# Altium integrated library Lattice FPGA FPSC.IntLib: 28 symbols (part 5 of 9)
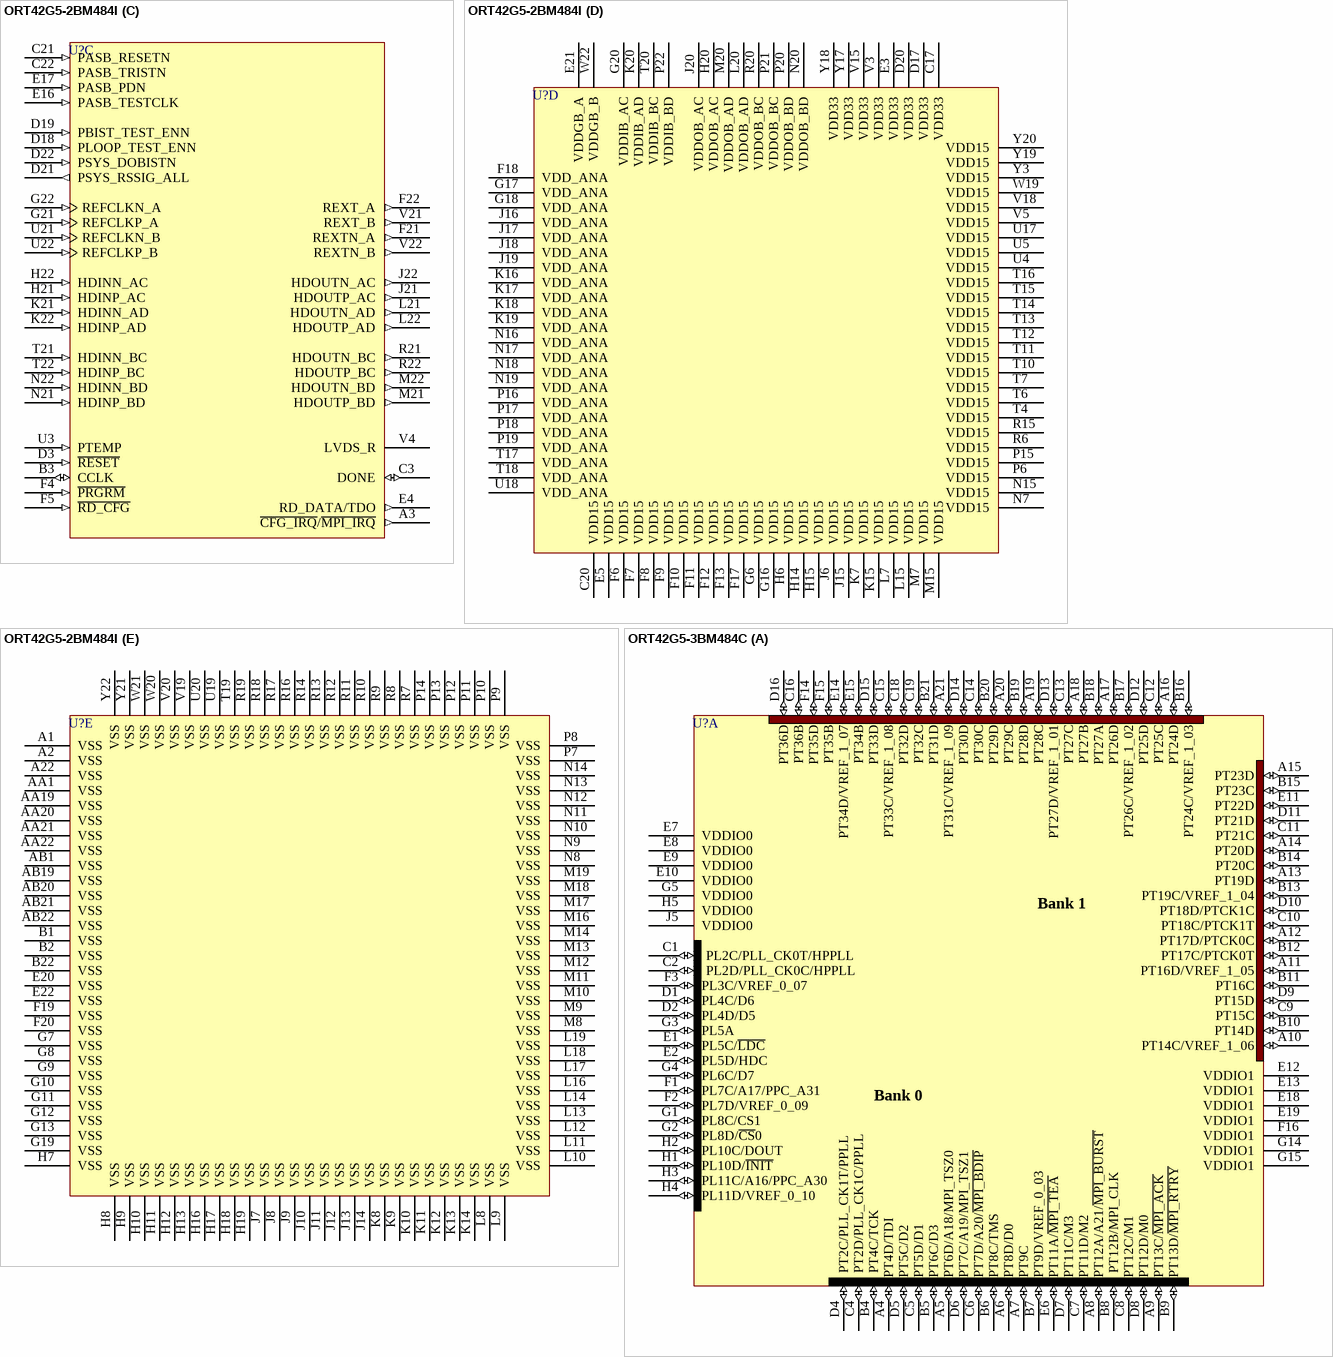
[diagram p56: symbols ORT42G5-2BM484I to ORT42G5-3BM484C]

## ORT42G5-2BM484I
designator U?
ORCA ORT42G5 0.6 - 3.7 Gbps XAUI and FC FPSC: 204 User I/Os, 484-Ball fpBGA, Speed Grade 2, Industrial Grade; Published: 17-Dec-2003; LatestRevisionDate: 13-Apr-2006; LatestRevisionNote: IPC-7351 Footprint Added.; DatasheetVersion: 42g582g5_01 (Mar-2003); PackageVersion: pkg_32, Aug-2005; PackageReference: fpBGA484; Publisher: Altium Limited; PackageDescription: 484-Ball Fine Pitch Ball Grid Array (fpBGA484); Code_IPC: BGA100P22X22-484; ComponentLink1Description: Manufacturer Link; ComponentLink1URL: http://www.latticesemi.com/products/fpsc/ort82g5/index.cfm; ComponentLink2Description: Datasheet; ComponentLink2URL: http://www.latticesemi.com/account/_download.cfm?AMID=3972; ComponentLink3Description: Lattice Login; ComponentLink3URL: http://www.latticesemi.com/account/login.cfm
footprint fpBGA484 (BGA, 484-Leads, Body 23x23mm, Pitch 1mm)
3D model ORT42G5-fpBGA484 (484-Ball Fine Pitch Ball Grid Array (fpBGA484))
part A pins: A4 PT4D/TDI (io), A5 PT6D/A18/MPI_TSZ0 (io), A6 PT8D/D0 (io), A7 PT9C (io), A8 PT12A/A21/~{MPI_BURST} (io), A9 PT13C/~{MPI_ACK} (io), A10 PT14C/VREF_1_06 (io), A11 PT16D/VREF_1_05 (io), A12 PT17D/PTCK0C (io), A13 PT19D (io), A14 PT20D (io), A15 PT23D (io), A16 PT24D (io), A17 PT26D (io), A18 PT27B (io), A19 PT28C (io), A20 PT29C (io), A21 PT31C/VREF_1_09 (io), B4 PT4C/TCK (io), B5 PT6C/D3 (io), B6 PT8C/TMS (io), B7 PT9D/VREF_0_03 (io), B8 PT12B/MPI_CLK (io), B9 PT13D/~{MPI_RTRY} (io), B10 PT14D (io), B11 PT16C (io), B12 PT17C/PTCK0T (io), B13 PT19C/VREF_1_04 (io), B14 PT20C (io), B15 PT23C (io), B16 PT24C/VREF_1_03 (io), B17 PT26C/VREF_1_02 (io), B18 PT27A (io), B19 PT28D (io), B20 PT29D (io), B21 PT31D (io), C1 PL2C/PLL_CK0T/HPPLL (io), C2 PL2D/PLL_CK0C/HPPLL (io), C4 PT2D/PLL_CK1C/PPLL (io), C5 PT5D/D1 (io), C6 PT7D/A20/~{MPI_BDIP} (io), C7 PT11D/M2 (io), C8 PT12C/M1 (io), C9 PT15C (io), C10 PT18C/PTCK1T (io), C11 PT21C (io), C12 PT25C (io), C13 PT27C (io), C14 PT30C (io), C15 PT33C/VREF_1_08 (io), C16 PT36B (io), C18 PT32D (io), C19 PT32C (io), D1 PL4C/D6 (io), D2 PL4D/D5 (io), D4 PT2C/PLL_CK1T/PPLL (io), D5 PT5C/D2 (io), D6 PT7C/A19/MPI_TSZ1 (io), D7 PT11C/M3 (io), D8 PT12D/M0 (io), D9 PT15D (io), D10 PT18D/PTCK1C (io), D11 PT21D (io), D12 PT25D (io), D13 PT27D/VREF_1_01 (io), D14 PT30D (io), D15 PT33D (io), D16 PT36D (io), E1 PL5C/~{LDC} (io), E2 PL5D/HDC (io), E6 PT11A/~{MPI_TEA} (io), E7 VDDIO0 (power), E8 VDDIO0 (power), E9 VDDIO0 (power), E10 VDDIO0 (power), E11 PT22D (io), E12 VDDIO1 (power), E13 VDDIO1 (power), E14 PT34D/VREF_1_07 (io), E15 PT34B (io), E18 VDDIO1 (power), E19 VDDIO1 (power), F1 PL7C/A17/PPC_A31 (io), F2 PL7D/VREF_0_09 (io), F3 PL3C/VREF_0_07 (io), F14 PT35D (io), F15 PT35B (io), F16 VDDIO1 (power), G1 PL8C/CS1 (io), G2 PL8D/~{CS}0 (io), G3 PL5A (io), G4 PL6C/D7 (io), G5 VDDIO0 (power), G14 VDDIO1 (power), G15 VDDIO1 (power), H1 PL10D/~{INIT} (io), H2 PL10C/DOUT (io), H3 PL11C/A16/PPC_A30 (io), H4 PL11D/VREF_0_10 (io), H5 VDDIO0 (power), J5 VDDIO0 (power)
part B pins: AA2 PB2C/PLL_CK6T/PPLL (io), AA3 PB4A/VREF_6_05 (io), AA4 PB6C/D15 (io), AA5 PB8C/VREF_6_07 (io), AA6 PB11C/D23 (io), AA7 PB14C/VREF_6_10 (io), AA8 PB16C/VREF_6_11 (io), AA9 PB18C/VREF_5_01 (io), AA10 PB19B (io), AA11 PB20D (io), AA12 PB22D (io), AA13 PB24D (io), AA14 PB25D/VREF_5_04 (io), AA15 PB27D (io), AA16 PB28D/VREF_5_06 (io), AA17 PB30D (io), AA18 PB33D/VREF_5_08 (io), AB2 PB2D/PLL_CK6C/PPLL (io), AB3 PB4B/DP3 (io), AB4 PB6D/D16 (io), AB5 PB8D/D19 (io), AB6 PB11D/D24 (io), AB7 PB14D/D28 (io), AB8 PB16D/D31 (io), AB9 PB18D (io), AB10 PB19A (io), AB11 PB20C/VREF_5_02 (io), AB12 PB22C (io), AB13 PB24C (io), AB14 PB25C (io), AB15 PB27C (io), AB16 PB28C (io), AB17 PB30C (io), AB18 PB33C (io), J1 PL12D/A15/PPC_A29 (io), J2 PL12C/A14/PPC_A28 (io), J3 PL14D/RDY/~{BUSY}/RCLK (io), J4 PL13C/D4 (io), K1 PL15D/A13/PPC_A27 (io), K2 PL15C/A12/PPC_A26 (io), K3 PL16C (io), K4 PL17D/A11/PPC_A25 (io), K5 PL19D/~{RD}/~{MPI_STRB} (io), K6 VDDIO7 (power), L1 PL20D/PLCK0C (io), L2 PL20C/PLCK0T (io), L3 PL21D/A10/PPC_A24 (io), L4 PL21C/A9/PPC_A23 (io), L5 PL22D/A8/PPC_A22 (io), L6 VDDIO7 (power), M1 PL26C/A5/PPC_A19 (io), M2 PL26D/A6/PPC_A20 (io), M3 PL24D/PLCK1C (io), M4 PL24C/PLCK1T (io), M5 VDDIO7 (power), M6 VDDIO7 (power), N1 PL29C/A2/PPC_A16 (io), N2 PL29D/A3/PPC_A17 (io), N3 PL27D/~{WR}/MPI_RW (io), N4 PL25C/A7/PPC_A21 (io), N5 PL28D/A4/PPC_A18 (io), N6 VDDIO7 (power), P1 PL30C/A0/PPC_A14 (io), P2 PL30D/A1/PPC_A15 (io), P3 PL31D/DP0 (io), P4 PL31C/DP1 (io), P5 VDDIO6 (power), R1 PL33C/D10 (io), R2 PL33D/D9 (io), R3 PL32C/VREF_6_01 (io), R4 PL32D/D8 (io), R5 VDDIO6 (power), T1 PL34A (io), T2 PL34B (io), T3 PL34D (io), T5 VDDIO6 (power), T8 VDDIO6 (power), T9 VDDIO6 (power), U1 PL35B/D11 (io), U2 PL35A/D12 (io), U6 VDDIO6 (power), U7 VDDIO6 (power), U8 PB16A (io), U9 PB18A (io), U10 PB21A (io), U11 PB22A (io), U12 PB23A (io), U13 VDDIO5 (power), U14 VDDIO5 (power), U15 VDDIO5 (power), U16 VDDIO5 (power), V1 PL36B/VREF_6_03 (io), V2 PL36A/D13 (io), V6 PB9C/D20 (io), V7 PB14A (io), V8 PB15A (io), V9 PB17A (io), V10 PB20A (io), V11 PB24A (io), V12 PB25A (io), V13 VDDIO5 (power), V14 PB34D (io), V16 PB35B (io), V17 VDDIO5 (power), W1 PL37A/VREF_6_04 (io), W2 PL37B (io), W3 PB2A/DP2 (io), W4 PB5D/D14 (io), W5 PB7C/D17 (io), W6 PB10C/VREF_6_08 (io), W7 PB12C/VREF_6_09 (io), W8 PB15C/D29 (io), W9 PB17C (io), W10 PB19C/PBCK0T (io), W11 PB21D/VREF_5_03 (io), W12 PB23D/PBCK1C (io), W13 PB26D/VREF_5_05 (io), W14 PB29D (io), W15 PB31D (io), W16 PB36D (io), W17 VDDIO5 (power), W18 VDDIO5 (power), Y1 PL39D/PLL_CK7C/HPPLL (io), Y2 PL39C/PLL_CK7T/HPPLL (io), Y4 PB5C/VREF_6_06 (io), Y5 PB7D/D18 (io), Y6 PB10D/D22 (io), Y7 PB12D/D25 (io), Y8 PB15D/D30 (io), Y9 PB17D (io), Y10 PB19D/PBCK0C (io), Y11 PB21C (io), Y12 PB23C/PBCK1T (io), Y13 PB26C (io), Y14 PB29C (io), Y15 PB31C/VREF_5_07 (io), Y16 PB36C (io)
part C pins: A3 ~{CFG_IRQ}/~{MPI_IRQ} (out), B3 CCLK (io), C3 DONE (io), C21 PASB_RESETN (in), C22 PASB_TRISTN (in), D3 ~{RESET} (in), D18 PLOOP_TEST_ENN (in), D19 PBIST_TEST_ENN (in), D21 PSYS_RSSIG_ALL (out), D22 PSYS_DOBISTN (in), E4 RD_DATA/TDO (out), E16 PASB_TESTCLK (in), E17 PASB_PDN (in), F4 ~{PRGRM} (in), F5 ~{RD_CFG} (in), F21 REXTN_A (out), F22 REXT_A (out), G21 REFCLKP_A (in), G22 REFCLKN_A (in), H21 HDINP_AC (in), H22 HDINN_AC (in), J21 HDOUTP_AC (out), J22 HDOUTN_AC (out), K21 HDINN_AD (in), K22 HDINP_AD (in), L21 HDOUTN_AD (out), L22 HDOUTP_AD (out), M21 HDOUTP_BD (out), M22 HDOUTN_BD (out), N21 HDINP_BD (in), N22 HDINN_BD (in), R21 HDOUTN_BC (out), R22 HDOUTP_BC (out), T21 HDINN_BC (in), T22 HDINP_BC (in), U3 PTEMP (in), U21 REFCLKN_B (in), U22 REFCLKP_B (in), V4 LVDS_R, V21 REXT_B (out), V22 REXTN_B (out)
part D pins: C17 VDD33 (power), C20 VDD15 (power), D17 VDD33 (power), D20 VDD33 (power), E3 VDD33 (power), E5 VDD15 (power), E21 VDDGB_A (power), F6 VDD15 (power), F7 VDD15 (power), F8 VDD15 (power), F9 VDD15 (power), F10 VDD15 (power), F11 VDD15 (power), F12 VDD15 (power), F13 VDD15 (power), F17 VDD15 (power), F18 VDD_ANA (power), G6 VDD15 (power), G16 VDD15 (power), G17 VDD_ANA (power), G18 VDD_ANA (power), G20 VDDIB_AC (power), H6 VDD15 (power), H14 VDD15 (power), H15 VDD15 (power), H20 VDDOB_AC (power), J6 VDD15 (power), J15 VDD15 (power), J16 VDD_ANA (power), J17 VDD_ANA (power), J18 VDD_ANA (power), J19 VDD_ANA (power), J20 VDDOB_AC (power), K7 VDD15 (power), K15 VDD15 (power), K16 VDD_ANA (power), K17 VDD_ANA (power), K18 VDD_ANA (power), K19 VDD_ANA (power), K20 VDDIB_AD (power), L7 VDD15 (power), L15 VDD15 (power), L20 VDDOB_AD (power), M7 VDD15 (power), M15 VDD15 (power), M20 VDDOB_AD (power), N7 VDD15 (power), N15 VDD15 (power), N16 VDD_ANA (power), N17 VDD_ANA (power), N18 VDD_ANA (power), N19 VDD_ANA (power), N20 VDDOB_BD (power), P6 VDD15 (power), P15 VDD15 (power), P16 VDD_ANA (power), P17 VDD_ANA (power), P18 VDD_ANA (power), P19 VDD_ANA (power), P20 VDDOB_BD (power), P21 VDDOB_BC (power), P22 VDDIB_BD (power), R6 VDD15 (power), R15 VDD15 (power), R20 VDDOB_BC (power), T4 VDD15 (power), T6 VDD15 (power), T7 VDD15 (power), T10 VDD15 (power), T11 VDD15 (power), T12 VDD15 (power), T13 VDD15 (power), T14 VDD15 (power), T15 VDD15 (power), T16 VDD15 (power), T17 VDD_ANA (power), T18 VDD_ANA (power), T20 VDDIB_BC (power), U4 VDD15 (power), U5 VDD15 (power), U17 VDD15 (power), U18 VDD_ANA (power), V3 VDD33 (power), V5 VDD15 (power), V15 VDD33 (power), V18 VDD15 (power), W19 VDD15 (power), W22 VDDGB_B (power), Y3 VDD15 (power), Y17 VDD33 (power), Y18 VDD33 (power), Y19 VDD15 (power), Y20 VDD15 (power)
part E pins: A1 VSS (power), A2 VSS (power), A22 VSS (power), AA1 VSS (power), AA19 VSS (power), AA20 VSS (power), AA21 VSS (power), AA22 VSS (power), AB1 VSS (power), AB19 VSS (power), AB20 VSS (power), AB21 VSS (power), AB22 VSS (power), B1 VSS (power), B2 VSS (power), B22 VSS (power), E20 VSS (power), E22 VSS (power), F19 VSS (power), F20 VSS (power), G7 VSS (power), G8 VSS (power), G9 VSS (power), G10 VSS (power), G11 VSS (power), G12 VSS (power), G13 VSS (power), G19 VSS (power), H7 VSS (power), H8 VSS (power), H9 VSS (power), H10 VSS (power), H11 VSS (power), H12 VSS (power), H13 VSS (power), H16 VSS (power), H17 VSS (power), H18 VSS (power), H19 VSS (power), J7 VSS (power), J8 VSS (power), J9 VSS (power), J10 VSS (power), J11 VSS (power), J12 VSS (power), J13 VSS (power), J14 VSS (power), K8 VSS (power), K9 VSS (power), K10 VSS (power), K11 VSS (power), K12 VSS (power), K13 VSS (power), K14 VSS (power), L8 VSS (power), L9 VSS (power), L10 VSS (power), L11 VSS (power), L12 VSS (power), L13 VSS (power), L14 VSS (power), L16 VSS (power), L17 VSS (power), L18 VSS (power), L19 VSS (power), M8 VSS (power), M9 VSS (power), M10 VSS (power), M11 VSS (power), M12 VSS (power), M13 VSS (power), M14 VSS (power), M16 VSS (power), M17 VSS (power), M18 VSS (power), M19 VSS (power), N8 VSS (power), N9 VSS (power), N10 VSS (power), N11 VSS (power), N12 VSS (power), N13 VSS (power), N14 VSS (power), P7 VSS (power), P8 VSS (power), P9 VSS (power), P10 VSS (power), P11 VSS (power), P12 VSS (power), P13 VSS (power), P14 VSS (power), R7 VSS (power), R8 VSS (power), R9 VSS (power), R10 VSS (power), R11 VSS (power), R12 VSS (power), R13 VSS (power), R14 VSS (power), R16 VSS (power), R17 VSS (power), R18 VSS (power), R19 VSS (power), T19 VSS (power), U19 VSS (power), U20 VSS (power), V19 VSS (power), V20 VSS (power), W20 VSS (power), W21 VSS (power), Y21 VSS (power), Y22 VSS (power)
part A text: Bank 1; Bank 0
part B text: Bank 7; Bank 5; Bank 6

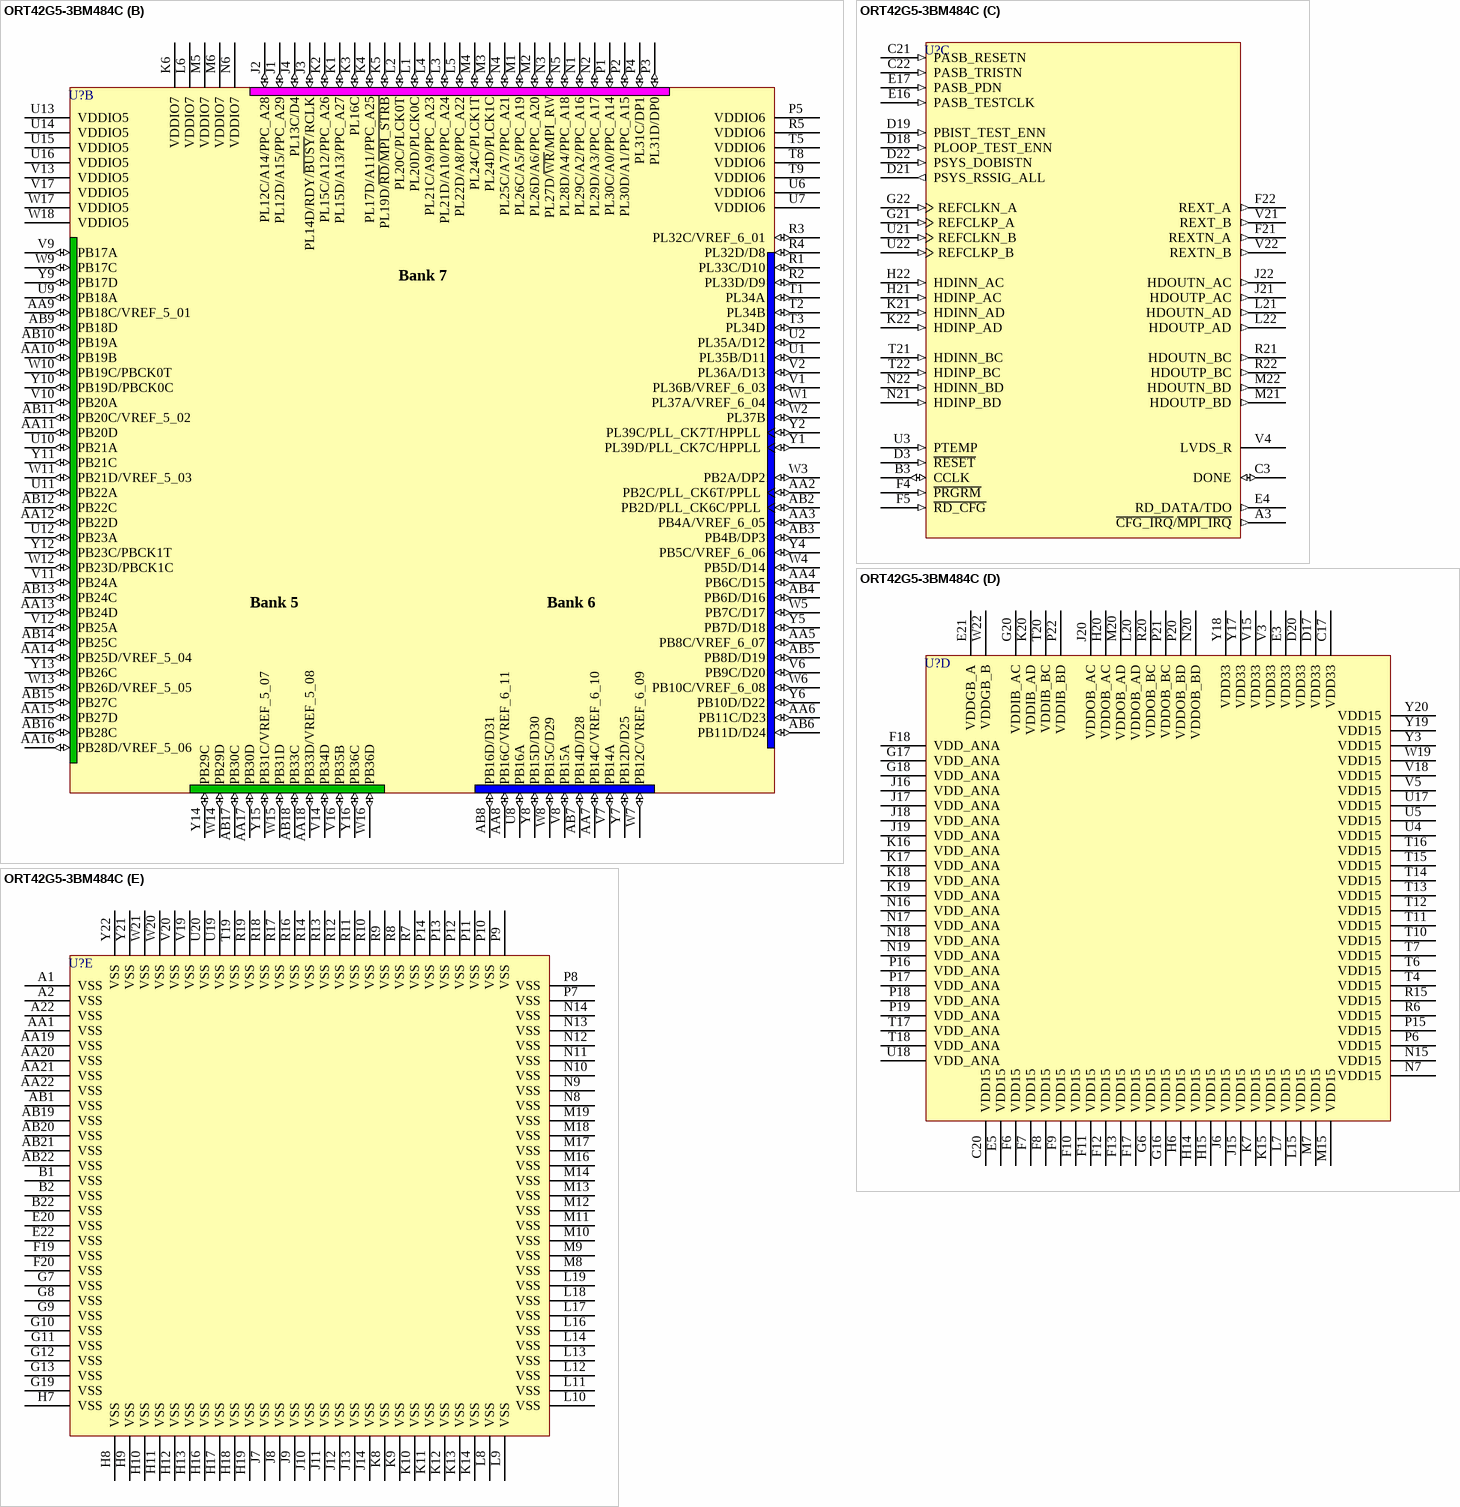
[diagram p26: symbol ORT42G5-3BM484C]

## ORT42G5-3BM484C
designator U?
ORCA ORT42G5 0.6 - 3.7 Gbps XAUI and FC FPSC: 204 User I/Os, 484-Ball fpBGA, Speed Grade 3, Commercial Grade; Published: 17-Dec-2003; LatestRevisionDate: 13-Apr-2006; LatestRevisionNote: IPC-7351 Footprint Added.; DatasheetVersion: 42g582g5_01 (Mar-2003); PackageVersion: pkg_32, Aug-2005; PackageReference: fpBGA484; Publisher: Altium Limited; PackageDescription: 484-Ball Fine Pitch Ball Grid Array (fpBGA484); Code_IPC: BGA100P22X22-484; ComponentLink1Description: Manufacturer Link; ComponentLink1URL: http://www.latticesemi.com/products/fpsc/ort82g5/index.cfm; ComponentLink2Description: Datasheet; ComponentLink2URL: http://www.latticesemi.com/account/_download.cfm?AMID=3972; ComponentLink3Description: Lattice Login; ComponentLink3URL: http://www.latticesemi.com/account/login.cfm
footprint fpBGA484 (BGA, 484-Leads, Body 23x23mm, Pitch 1mm)
3D model ORT42G5-fpBGA484 (484-Ball Fine Pitch Ball Grid Array (fpBGA484))
part A pins: A4 PT4D/TDI (io), A5 PT6D/A18/MPI_TSZ0 (io), A6 PT8D/D0 (io), A7 PT9C (io), A8 PT12A/A21/~{MPI_BURST} (io), A9 PT13C/~{MPI_ACK} (io), A10 PT14C/VREF_1_06 (io), A11 PT16D/VREF_1_05 (io), A12 PT17D/PTCK0C (io), A13 PT19D (io), A14 PT20D (io), A15 PT23D (io), A16 PT24D (io), A17 PT26D (io), A18 PT27B (io), A19 PT28C (io), A20 PT29C (io), A21 PT31C/VREF_1_09 (io), B4 PT4C/TCK (io), B5 PT6C/D3 (io), B6 PT8C/TMS (io), B7 PT9D/VREF_0_03 (io), B8 PT12B/MPI_CLK (io), B9 PT13D/~{MPI_RTRY} (io), B10 PT14D (io), B11 PT16C (io), B12 PT17C/PTCK0T (io), B13 PT19C/VREF_1_04 (io), B14 PT20C (io), B15 PT23C (io), B16 PT24C/VREF_1_03 (io), B17 PT26C/VREF_1_02 (io), B18 PT27A (io), B19 PT28D (io), B20 PT29D (io), B21 PT31D (io), C1 PL2C/PLL_CK0T/HPPLL (io), C2 PL2D/PLL_CK0C/HPPLL (io), C4 PT2D/PLL_CK1C/PPLL (io), C5 PT5D/D1 (io), C6 PT7D/A20/~{MPI_BDIP} (io), C7 PT11D/M2 (io), C8 PT12C/M1 (io), C9 PT15C (io), C10 PT18C/PTCK1T (io), C11 PT21C (io), C12 PT25C (io), C13 PT27C (io), C14 PT30C (io), C15 PT33C/VREF_1_08 (io), C16 PT36B (io), C18 PT32D (io), C19 PT32C (io), D1 PL4C/D6 (io), D2 PL4D/D5 (io), D4 PT2C/PLL_CK1T/PPLL (io), D5 PT5C/D2 (io), D6 PT7C/A19/MPI_TSZ1 (io), D7 PT11C/M3 (io), D8 PT12D/M0 (io), D9 PT15D (io), D10 PT18D/PTCK1C (io), D11 PT21D (io), D12 PT25D (io), D13 PT27D/VREF_1_01 (io), D14 PT30D (io), D15 PT33D (io), D16 PT36D (io), E1 PL5C/~{LDC} (io), E2 PL5D/HDC (io), E6 PT11A/~{MPI_TEA} (io), E7 VDDIO0 (power), E8 VDDIO0 (power), E9 VDDIO0 (power), E10 VDDIO0 (power), E11 PT22D (io), E12 VDDIO1 (power), E13 VDDIO1 (power), E14 PT34D/VREF_1_07 (io), E15 PT34B (io), E18 VDDIO1 (power), E19 VDDIO1 (power), F1 PL7C/A17/PPC_A31 (io), F2 PL7D/VREF_0_09 (io), F3 PL3C/VREF_0_07 (io), F14 PT35D (io), F15 PT35B (io), F16 VDDIO1 (power), G1 PL8C/CS1 (io), G2 PL8D/~{CS}0 (io), G3 PL5A (io), G4 PL6C/D7 (io), G5 VDDIO0 (power), G14 VDDIO1 (power), G15 VDDIO1 (power), H1 PL10D/~{INIT} (io), H2 PL10C/DOUT (io), H3 PL11C/A16/PPC_A30 (io), H4 PL11D/VREF_0_10 (io), H5 VDDIO0 (power), J5 VDDIO0 (power)
part B pins: AA2 PB2C/PLL_CK6T/PPLL (io), AA3 PB4A/VREF_6_05 (io), AA4 PB6C/D15 (io), AA5 PB8C/VREF_6_07 (io), AA6 PB11C/D23 (io), AA7 PB14C/VREF_6_10 (io), AA8 PB16C/VREF_6_11 (io), AA9 PB18C/VREF_5_01 (io), AA10 PB19B (io), AA11 PB20D (io), AA12 PB22D (io), AA13 PB24D (io), AA14 PB25D/VREF_5_04 (io), AA15 PB27D (io), AA16 PB28D/VREF_5_06 (io), AA17 PB30D (io), AA18 PB33D/VREF_5_08 (io), AB2 PB2D/PLL_CK6C/PPLL (io), AB3 PB4B/DP3 (io), AB4 PB6D/D16 (io), AB5 PB8D/D19 (io), AB6 PB11D/D24 (io), AB7 PB14D/D28 (io), AB8 PB16D/D31 (io), AB9 PB18D (io), AB10 PB19A (io), AB11 PB20C/VREF_5_02 (io), AB12 PB22C (io), AB13 PB24C (io), AB14 PB25C (io), AB15 PB27C (io), AB16 PB28C (io), AB17 PB30C (io), AB18 PB33C (io), J1 PL12D/A15/PPC_A29 (io), J2 PL12C/A14/PPC_A28 (io), J3 PL14D/RDY/~{BUSY}/RCLK (io), J4 PL13C/D4 (io), K1 PL15D/A13/PPC_A27 (io), K2 PL15C/A12/PPC_A26 (io), K3 PL16C (io), K4 PL17D/A11/PPC_A25 (io), K5 PL19D/~{RD}/~{MPI_STRB} (io), K6 VDDIO7 (power), L1 PL20D/PLCK0C (io), L2 PL20C/PLCK0T (io), L3 PL21D/A10/PPC_A24 (io), L4 PL21C/A9/PPC_A23 (io), L5 PL22D/A8/PPC_A22 (io), L6 VDDIO7 (power), M1 PL26C/A5/PPC_A19 (io), M2 PL26D/A6/PPC_A20 (io), M3 PL24D/PLCK1C (io), M4 PL24C/PLCK1T (io), M5 VDDIO7 (power), M6 VDDIO7 (power), N1 PL29C/A2/PPC_A16 (io), N2 PL29D/A3/PPC_A17 (io), N3 PL27D/~{WR}/MPI_RW (io), N4 PL25C/A7/PPC_A21 (io), N5 PL28D/A4/PPC_A18 (io), N6 VDDIO7 (power), P1 PL30C/A0/PPC_A14 (io), P2 PL30D/A1/PPC_A15 (io), P3 PL31D/DP0 (io), P4 PL31C/DP1 (io), P5 VDDIO6 (power), R1 PL33C/D10 (io), R2 PL33D/D9 (io), R3 PL32C/VREF_6_01 (io), R4 PL32D/D8 (io), R5 VDDIO6 (power), T1 PL34A (io), T2 PL34B (io), T3 PL34D (io), T5 VDDIO6 (power), T8 VDDIO6 (power), T9 VDDIO6 (power), U1 PL35B/D11 (io), U2 PL35A/D12 (io), U6 VDDIO6 (power), U7 VDDIO6 (power), U8 PB16A (io), U9 PB18A (io), U10 PB21A (io), U11 PB22A (io), U12 PB23A (io), U13 VDDIO5 (power), U14 VDDIO5 (power), U15 VDDIO5 (power), U16 VDDIO5 (power), V1 PL36B/VREF_6_03 (io), V2 PL36A/D13 (io), V6 PB9C/D20 (io), V7 PB14A (io), V8 PB15A (io), V9 PB17A (io), V10 PB20A (io), V11 PB24A (io), V12 PB25A (io), V13 VDDIO5 (power), V14 PB34D (io), V16 PB35B (io), V17 VDDIO5 (power), W1 PL37A/VREF_6_04 (io), W2 PL37B (io), W3 PB2A/DP2 (io), W4 PB5D/D14 (io), W5 PB7C/D17 (io), W6 PB10C/VREF_6_08 (io), W7 PB12C/VREF_6_09 (io), W8 PB15C/D29 (io), W9 PB17C (io), W10 PB19C/PBCK0T (io), W11 PB21D/VREF_5_03 (io), W12 PB23D/PBCK1C (io), W13 PB26D/VREF_5_05 (io), W14 PB29D (io), W15 PB31D (io), W16 PB36D (io), W17 VDDIO5 (power), W18 VDDIO5 (power), Y1 PL39D/PLL_CK7C/HPPLL (io), Y2 PL39C/PLL_CK7T/HPPLL (io), Y4 PB5C/VREF_6_06 (io), Y5 PB7D/D18 (io), Y6 PB10D/D22 (io), Y7 PB12D/D25 (io), Y8 PB15D/D30 (io), Y9 PB17D (io), Y10 PB19D/PBCK0C (io), Y11 PB21C (io), Y12 PB23C/PBCK1T (io), Y13 PB26C (io), Y14 PB29C (io), Y15 PB31C/VREF_5_07 (io), Y16 PB36C (io)
part C pins: A3 ~{CFG_IRQ}/~{MPI_IRQ} (out), B3 CCLK (io), C3 DONE (io), C21 PASB_RESETN (in), C22 PASB_TRISTN (in), D3 ~{RESET} (in), D18 PLOOP_TEST_ENN (in), D19 PBIST_TEST_ENN (in), D21 PSYS_RSSIG_ALL (out), D22 PSYS_DOBISTN (in), E4 RD_DATA/TDO (out), E16 PASB_TESTCLK (in), E17 PASB_PDN (in), F4 ~{PRGRM} (in), F5 ~{RD_CFG} (in), F21 REXTN_A (out), F22 REXT_A (out), G21 REFCLKP_A (in), G22 REFCLKN_A (in), H21 HDINP_AC (in), H22 HDINN_AC (in), J21 HDOUTP_AC (out), J22 HDOUTN_AC (out), K21 HDINN_AD (in), K22 HDINP_AD (in), L21 HDOUTN_AD (out), L22 HDOUTP_AD (out), M21 HDOUTP_BD (out), M22 HDOUTN_BD (out), N21 HDINP_BD (in), N22 HDINN_BD (in), R21 HDOUTN_BC (out), R22 HDOUTP_BC (out), T21 HDINN_BC (in), T22 HDINP_BC (in), U3 PTEMP (in), U21 REFCLKN_B (in), U22 REFCLKP_B (in), V4 LVDS_R, V21 REXT_B (out), V22 REXTN_B (out)
part D pins: C17 VDD33 (power), C20 VDD15 (power), D17 VDD33 (power), D20 VDD33 (power), E3 VDD33 (power), E5 VDD15 (power), E21 VDDGB_A (power), F6 VDD15 (power), F7 VDD15 (power), F8 VDD15 (power), F9 VDD15 (power), F10 VDD15 (power), F11 VDD15 (power), F12 VDD15 (power), F13 VDD15 (power), F17 VDD15 (power), F18 VDD_ANA (power), G6 VDD15 (power), G16 VDD15 (power), G17 VDD_ANA (power), G18 VDD_ANA (power), G20 VDDIB_AC (power), H6 VDD15 (power), H14 VDD15 (power), H15 VDD15 (power), H20 VDDOB_AC (power), J6 VDD15 (power), J15 VDD15 (power), J16 VDD_ANA (power), J17 VDD_ANA (power), J18 VDD_ANA (power), J19 VDD_ANA (power), J20 VDDOB_AC (power), K7 VDD15 (power), K15 VDD15 (power), K16 VDD_ANA (power), K17 VDD_ANA (power), K18 VDD_ANA (power), K19 VDD_ANA (power), K20 VDDIB_AD (power), L7 VDD15 (power), L15 VDD15 (power), L20 VDDOB_AD (power), M7 VDD15 (power), M15 VDD15 (power), M20 VDDOB_AD (power), N7 VDD15 (power), N15 VDD15 (power), N16 VDD_ANA (power), N17 VDD_ANA (power), N18 VDD_ANA (power), N19 VDD_ANA (power), N20 VDDOB_BD (power), P6 VDD15 (power), P15 VDD15 (power), P16 VDD_ANA (power), P17 VDD_ANA (power), P18 VDD_ANA (power), P19 VDD_ANA (power), P20 VDDOB_BD (power), P21 VDDOB_BC (power), P22 VDDIB_BD (power), R6 VDD15 (power), R15 VDD15 (power), R20 VDDOB_BC (power), T4 VDD15 (power), T6 VDD15 (power), T7 VDD15 (power), T10 VDD15 (power), T11 VDD15 (power), T12 VDD15 (power), T13 VDD15 (power), T14 VDD15 (power), T15 VDD15 (power), T16 VDD15 (power), T17 VDD_ANA (power), T18 VDD_ANA (power), T20 VDDIB_BC (power), U4 VDD15 (power), U5 VDD15 (power), U17 VDD15 (power), U18 VDD_ANA (power), V3 VDD33 (power), V5 VDD15 (power), V15 VDD33 (power), V18 VDD15 (power), W19 VDD15 (power), W22 VDDGB_B (power), Y3 VDD15 (power), Y17 VDD33 (power), Y18 VDD33 (power), Y19 VDD15 (power), Y20 VDD15 (power)
part E pins: A1 VSS (power), A2 VSS (power), A22 VSS (power), AA1 VSS (power), AA19 VSS (power), AA20 VSS (power), AA21 VSS (power), AA22 VSS (power), AB1 VSS (power), AB19 VSS (power), AB20 VSS (power), AB21 VSS (power), AB22 VSS (power), B1 VSS (power), B2 VSS (power), B22 VSS (power), E20 VSS (power), E22 VSS (power), F19 VSS (power), F20 VSS (power), G7 VSS (power), G8 VSS (power), G9 VSS (power), G10 VSS (power), G11 VSS (power), G12 VSS (power), G13 VSS (power), G19 VSS (power), H7 VSS (power), H8 VSS (power), H9 VSS (power), H10 VSS (power), H11 VSS (power), H12 VSS (power), H13 VSS (power), H16 VSS (power), H17 VSS (power), H18 VSS (power), H19 VSS (power), J7 VSS (power), J8 VSS (power), J9 VSS (power), J10 VSS (power), J11 VSS (power), J12 VSS (power), J13 VSS (power), J14 VSS (power), K8 VSS (power), K9 VSS (power), K10 VSS (power), K11 VSS (power), K12 VSS (power), K13 VSS (power), K14 VSS (power), L8 VSS (power), L9 VSS (power), L10 VSS (power), L11 VSS (power), L12 VSS (power), L13 VSS (power), L14 VSS (power), L16 VSS (power), L17 VSS (power), L18 VSS (power), L19 VSS (power), M8 VSS (power), M9 VSS (power), M10 VSS (power), M11 VSS (power), M12 VSS (power), M13 VSS (power), M14 VSS (power), M16 VSS (power), M17 VSS (power), M18 VSS (power), M19 VSS (power), N8 VSS (power), N9 VSS (power), N10 VSS (power), N11 VSS (power), N12 VSS (power), N13 VSS (power), N14 VSS (power), P7 VSS (power), P8 VSS (power), P9 VSS (power), P10 VSS (power), P11 VSS (power), P12 VSS (power), P13 VSS (power), P14 VSS (power), R7 VSS (power), R8 VSS (power), R9 VSS (power), R10 VSS (power), R11 VSS (power), R12 VSS (power), R13 VSS (power), R14 VSS (power), R16 VSS (power), R17 VSS (power), R18 VSS (power), R19 VSS (power), T19 VSS (power), U19 VSS (power), U20 VSS (power), V19 VSS (power), V20 VSS (power), W20 VSS (power), W21 VSS (power), Y21 VSS (power), Y22 VSS (power)
part A text: Bank 1; Bank 0
part B text: Bank 7; Bank 5; Bank 6

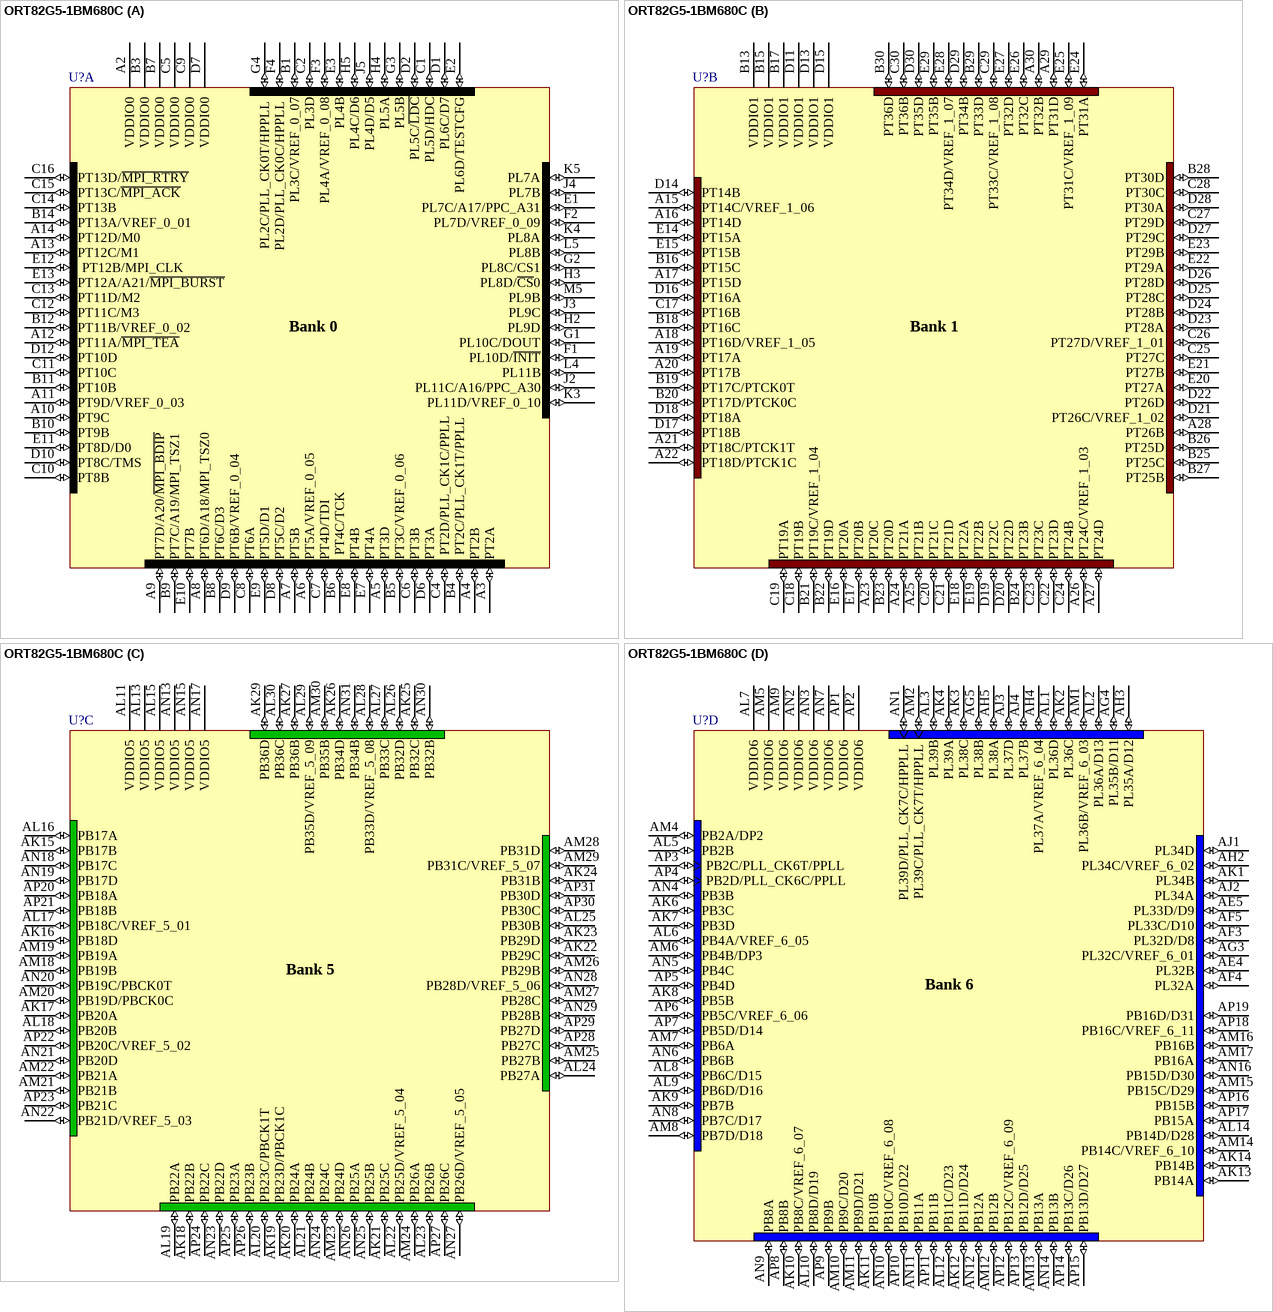
[diagram p27: symbol ORT82G5-1BM680C]

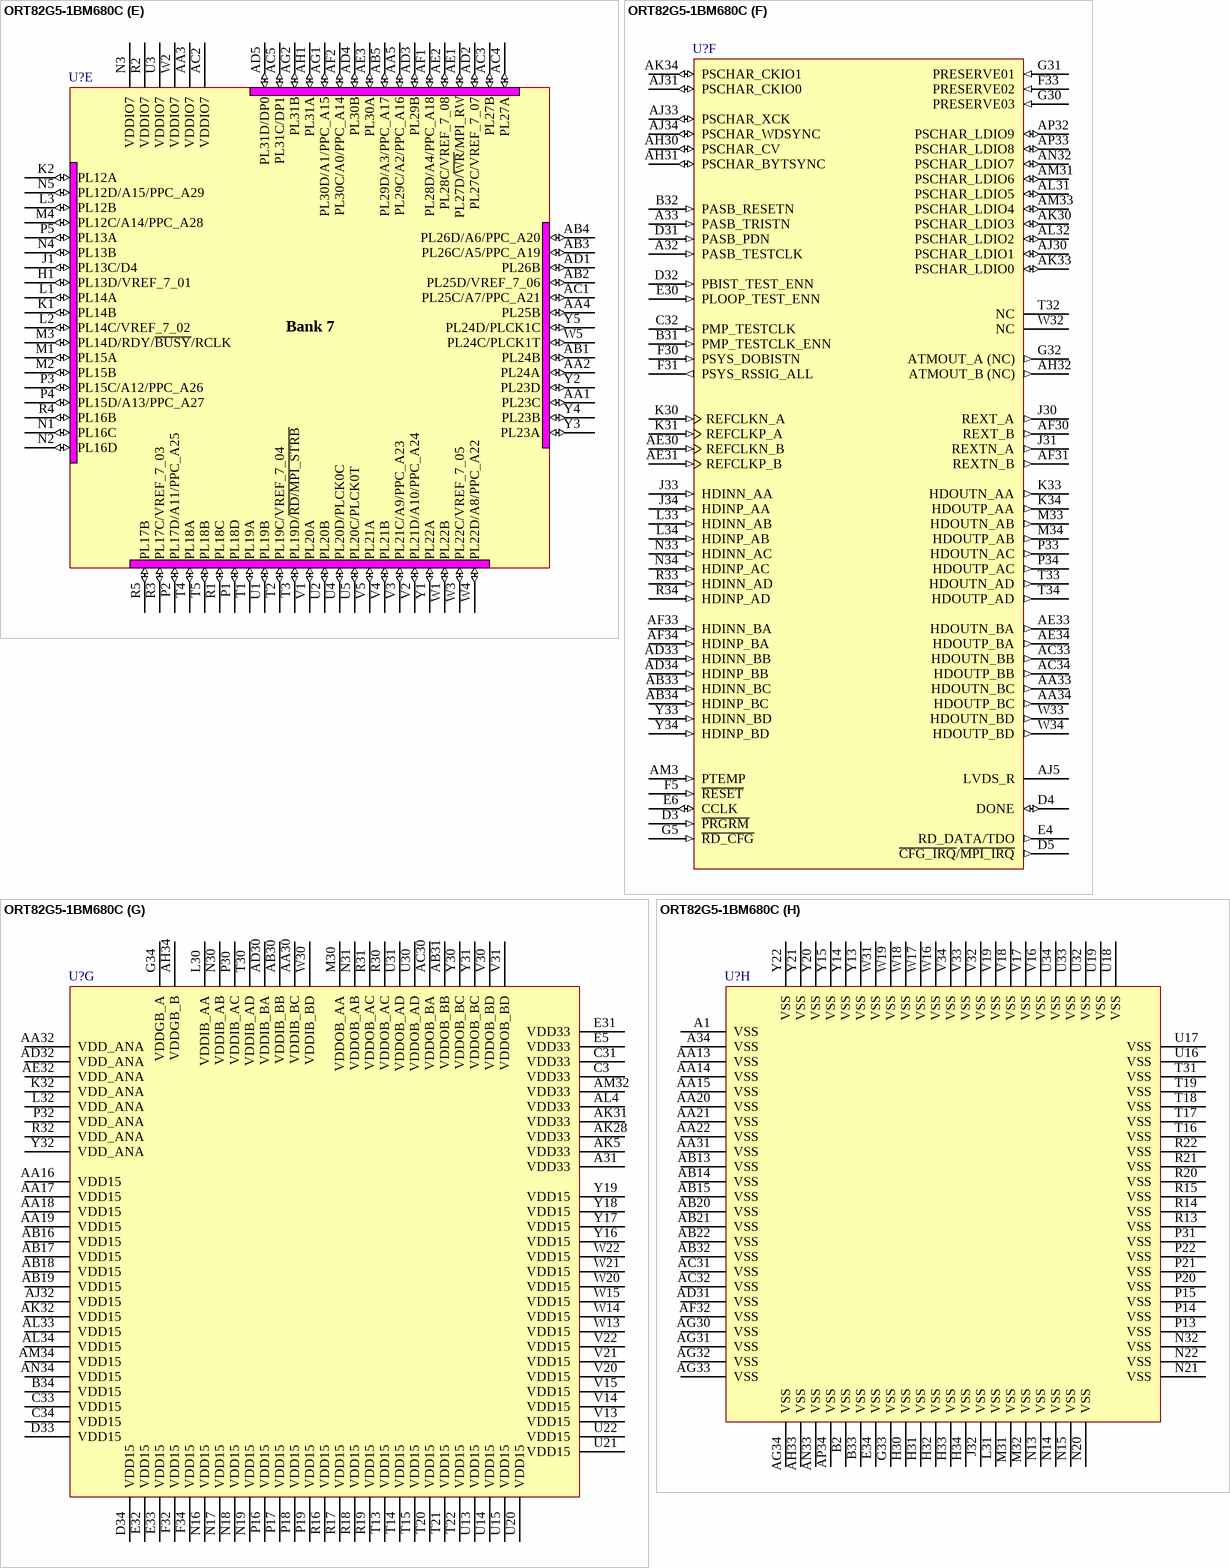
[diagram p28: symbol ORT82G5-1BM680C]

## ORT82G5-1BM680C
designator U?
ORCA ORT82G5 0.6 - 3.7 Gbps XAUI and FC FPSC: 372 User I/Os, 680-Ball fpBGA, Speed Grade 1, Commercial Grade; Published: 17-Dec-2003; LatestRevisionDate: 13-Apr-2006; LatestRevisionNote: IPC-7351 Footprint Added.; DatasheetVersion: 42g582g5_01 (Mar-2003); PackageVersion: pkg_32, Aug-2005; PackageReference: fpBGA680; Publisher: Altium Limited; PackageDescription: 680-Ball Fine Pitch Ball Grid Array (fpBGA680); ComponentLink1Description: Manufacturer Link; ComponentLink1URL: http://www.latticesemi.com/products/fpsc/ort82g5/index.cfm; ComponentLink2Description: Datasheet; ComponentLink2URL: http://www.latticesemi.com/account/_download.cfm?AMID=3972; ComponentLink3Description: Lattice Login; ComponentLink3URL: http://www.latticesemi.com/account/login.cfm
footprint fpBGA680 (BGA, 680-Leads, Body 35x35mm, Pitch 1mm)
3D model ORT82G5-fpBGA680 (680-Ball Fine Pitch Ball Grid Array (fpBGA680))
part A pins: A2 VDDIO0 (power), A3 PT2A (io), A4 PT2B (io), A5 PT3D (io), A6 PT5A/VREF_0_05 (io), A7 PT5B (io), A8 PT6D/A18/MPI_TSZ0 (io), A9 PT7D/A20/~{MPI_BDIP} (io), A10 PT9C (io), A11 PT9D/VREF_0_03 (io), A12 PT11A/~{MPI_TEA} (io), A13 PT12C/M1 (io), A14 PT12D/M0 (io), B1 PL3C/VREF_0_07 (io), B3 VDDIO0 (power), B4 PT2C/PLL_CK1T/PPLL (io), B5 PT3C/VREF_0_06 (io), B6 PT4C/TCK (io), B7 VDDIO0 (power), B8 PT6C/D3 (io), B9 PT7C/A19/MPI_TSZ1 (io), B10 PT9B (io), B11 PT10B (io), B12 PT11B/VREF_0_02 (io), B14 PT13A/VREF_0_01 (io), C1 PL5D/HDC (io), C2 PL3D (io), C4 PT2D/PLL_CK1C/PPLL (io), C5 VDDIO0 (power), C6 PT3B (io), C7 PT4D/TDI (io), C8 PT6A (io), C9 VDDIO0 (power), C10 PT8B (io), C11 PT10C (io), C12 PT11C/M3 (io), C13 PT11D/M2 (io), C14 PT13B (io), C15 PT13C/~{MPI_ACK} (io), C16 PT13D/~{MPI_RTRY} (io), D1 PL6C/D7 (io), D2 PL5C/~{LDC} (io), D6 PT3A (io), D7 VDDIO0 (power), D8 PT5C/D2 (io), D9 PT6B/VREF_0_04 (io), D10 PT8C/TMS (io), D12 PT10D (io), E1 PL7C/A17/PPC_A31 (io), E2 PL6D/TESTCFG (io), E3 PL4B (io), E7 PT4A (io), E8 PT4B (io), E9 PT5D/D1 (io), E10 PT7B (io), E11 PT8D/D0 (io), E12 PT12B/MPI_CLK (io), E13 PT12A/A21/~{MPI_BURST} (io), F1 PL10D/~{INIT} (io), F2 PL7D/VREF_0_09 (io), F3 PL4A/VREF_0_08 (io), F4 PL2D/PLL_CK0C/HPPLL (io), G1 PL10C/DOUT (io), G2 PL8C/CS1 (io), G3 PL5B (io), G4 PL2C/PLL_CK0T/HPPLL (io), H2 PL9D (io), H3 PL8D/~{CS}0 (io), H4 PL5A (io), H5 PL4C/D6 (io), J2 PL11C/A16/PPC_A30 (io), J3 PL9C (io), J4 PL7B (io), J5 PL4D/D5 (io), K3 PL11D/VREF_0_10 (io), K4 PL8A (io), K5 PL7A (io), L4 PL11B (io), L5 PL8B (io), M5 PL9B (io)
part B pins: A15 PT14C/VREF_1_06 (io), A16 PT14D (io), A17 PT15D (io), A18 PT16D/VREF_1_05 (io), A19 PT17A (io), A20 PT17B (io), A21 PT18C/PTCK1T (io), A22 PT18D/PTCK1C (io), A23 PT20C (io), A24 PT21A (io), A25 PT21B (io), A26 PT24C/VREF_1_03 (io), A27 PT24D (io), A28 PT26B (io), A29 PT31D (io), A30 PT32B (io), B13 VDDIO1 (power), B15 VDDIO1 (power), B16 PT15C (io), B17 VDDIO1 (power), B18 PT16C (io), B19 PT17C/PTCK0T (io), B20 PT17D/PTCK0C (io), B21 PT19C/VREF_1_04 (io), B22 PT19D (io), B23 PT20D (io), B24 PT23B (io), B25 PT25C (io), B26 PT25D (io), B27 PT25B (io), B28 PT30D (io), B29 PT33D (io), B30 PT36D (io), C17 PT16B (io), C18 PT19B (io), C19 PT19A (io), C20 PT21C (io), C21 PT21D (io), C22 PT23D (io), C23 PT23C (io), C24 PT24B (io), C25 PT27C (io), C26 PT27D/VREF_1_01 (io), C27 PT29D (io), C28 PT30C (io), C29 PT33C/VREF_1_08 (io), C30 PT36B (io), D11 VDDIO1 (power), D13 VDDIO1 (power), D14 PT14B (io), D15 VDDIO1 (power), D16 PT16A (io), D17 PT18B (io), D18 PT18A (io), D19 PT22C (io), D20 PT22D (io), D21 PT26C/VREF_1_02 (io), D22 PT26D (io), D23 PT28A (io), D24 PT28B (io), D25 PT28C (io), D26 PT28D (io), D27 PT29C (io), D28 PT30A (io), D29 PT34B (io), D30 PT35D (io), E14 PT15A (io), E15 PT15B (io), E16 PT20A (io), E17 PT20B (io), E18 PT22A (io), E19 PT22B (io), E20 PT27A (io), E21 PT27B (io), E22 PT29A (io), E23 PT29B (io), E24 PT31A (io), E25 PT31C/VREF_1_09 (io), E26 PT32C (io), E27 PT32D (io), E28 PT34D/VREF_1_07 (io), E29 PT35B (io)
part C pins: AK15 PB17B (io), AK16 PB18D (io), AK17 PB20A (io), AK18 PB22B (io), AK19 PB23D/PBCK1C (io), AK20 PB24A (io), AK21 PB25C (io), AK22 PB29C (io), AK23 PB29D (io), AK24 PB31B (io), AK25 PB32C (io), AK26 PB34D (io), AK27 PB36B (io), AK29 PB36D (io), AL11 VDDIO5 (power), AL13 VDDIO5 (power), AL15 VDDIO5 (power), AL16 PB17A (io), AL17 PB18C/VREF_5_01 (io), AL18 PB20B (io), AL19 PB22A (io), AL20 PB23C/PBCK1T (io), AL21 PB24B (io), AL22 PB25D/VREF_5_04 (io), AL23 PB26B (io), AL24 PB27A (io), AL25 PB30B (io), AL26 PB32D (io), AL27 PB33C (io), AL28 PB33D/VREF_5_08 (io), AL29 PB35D/VREF_5_09 (io), AL30 PB36C (io), AM18 PB19B (io), AM19 PB19A (io), AM20 PB19D/PBCK0C (io), AM21 PB21B (io), AM22 PB21A (io), AM23 PB24D (io), AM24 PB26A (io), AM25 PB27B (io), AM26 PB29B (io), AM27 PB28C (io), AM28 PB31D (io), AM29 PB31C/VREF_5_07 (io), AM30 PB35B (io), AN13 VDDIO5 (power), AN15 VDDIO5 (power), AN17 VDDIO5 (power), AN18 PB17C (io), AN19 PB17D (io), AN20 PB19C/PBCK0T (io), AN21 PB20D (io), AN22 PB21D/VREF_5_03 (io), AN23 PB22D (io), AN24 PB24C (io), AN25 PB25B (io), AN26 PB25A (io), AN27 PB26D/VREF_5_05 (io), AN28 PB28D/VREF_5_06 (io), AN29 PB28B (io), AN30 PB32B (io), AN31 PB34B (io), AP20 PB18A (io), AP21 PB18B (io), AP22 PB20C/VREF_5_02 (io), AP23 PB21C (io), AP24 PB22C (io), AP25 PB23A (io), AP26 PB23B (io), AP27 PB26C (io), AP28 PB27C (io), AP29 PB27D (io), AP30 PB30C (io), AP31 PB30D (io)
part D pins: AE4 PL32B (io), AE5 PL33D/D9 (io), AF3 PL32D/D8 (io), AF4 PL32A (io), AF5 PL33C/D10 (io), AG3 PL32C/VREF_6_01 (io), AG4 PL35B/D11 (io), AG5 PL38B (io), AH2 PL34C/VREF_6_02 (io), AH3 PL35A/D12 (io), AH4 PL37A/VREF_6_04 (io), AH5 PL38A (io), AJ1 PL34D (io), AJ2 PL34A (io), AJ3 PL37D (io), AJ4 PL37B (io), AK1 PL34B (io), AK2 PL36C (io), AK3 PL38C (io), AK4 PL39A (io), AK6 PB3C (io), AK7 PB3D (io), AK8 PB5B (io), AK9 PB7B (io), AK10 PB8C/VREF_6_07 (io), AK11 PB10B (io), AK12 PB11D/D24 (io), AK13 PB14A (io), AK14 PB14B (io), AL1 PL36D (io), AL2 PL36A/D13 (io), AL3 PL39B (io), AL5 PB2B (io), AL6 PB4A/VREF_6_05 (io), AL7 VDDIO6 (power), AL8 PB6C/D15 (io), AL9 PB6D/D16 (io), AL10 PB8D/D19 (io), AL12 PB11C/D23 (io), AL14 PB14D/D28 (io), AM1 PL36B/VREF_6_03 (io), AM2 PL39C/PLL_CK7T/HPPLL (io), AM4 PB2A/DP2 (io), AM5 VDDIO6 (power), AM6 PB4B/DP3 (io), AM7 PB6A (io), AM8 PB7D/D18 (io), AM9 VDDIO6 (power), AM10 PB9C/D20 (io), AM11 PB9D/D21 (io), AM12 PB12B (io), AM13 PB13A (io), AM14 PB14C/VREF_6_10 (io), AM15 PB15C/D29 (io), AM16 PB16B (io), AM17 PB16A (io), AN1 PL39D/PLL_CK7C/HPPLL (io), AN2 VDDIO6 (power), AN3 VDDIO6 (power), AN4 PB3B (io), AN5 PB4C (io), AN6 PB6B (io), AN7 VDDIO6 (power), AN8 PB7C/D17 (io), AN9 PB8A (io), AN10 PB10C/VREF_6_08 (io), AN11 PB11A (io), AN12 PB12A (io), AN14 PB13B (io), AN16 PB15D/D30 (io), AP1 VDDIO6 (power), AP2 VDDIO6 (power), AP3 PB2C/PLL_CK6T/PPLL (io), AP4 PB2D/PLL_CK6C/PPLL (io), AP5 PB4D (io), AP6 PB5C/VREF_6_06 (io), AP7 PB5D/D14 (io), AP8 PB8B (io), AP9 PB9B (io), AP10 PB10D/D22 (io), AP11 PB11B (io), AP12 PB12C/VREF_6_09 (io), AP13 PB12D/D25 (io), AP14 PB13C/D26 (io), AP15 PB13D/D27 (io), AP16 PB15B (io), AP17 PB15A (io), AP18 PB16C/VREF_6_11 (io), AP19 PB16D/D31 (io)
part E pins: AA1 PL23C (io), AA2 PL24A (io), AA3 VDDIO7 (power), AA4 PL25B (io), AA5 PL29C/A2/PPC_A16 (io), AB1 PL24B (io), AB2 PL25D/VREF_7_06 (io), AB3 PL26C/A5/PPC_A19 (io), AB4 PL26D/A6/PPC_A20 (io), AB5 PL29D/A3/PPC_A17 (io), AC1 PL25C/A7/PPC_A21 (io), AC2 VDDIO7 (power), AC3 PL27B (io), AC4 PL27A (io), AC5 PL31C/DP1 (io), AD1 PL26B (io), AD2 PL27C/VREF_7_07 (io), AD3 PL29B (io), AD4 PL30B (io), AD5 PL31D/DP0 (io), AE1 PL27D/~{WR}/MPI_RW (io), AE2 PL28C/VREF_7_08 (io), AE3 PL30A (io), AF1 PL28D/A4/PPC_A18 (io), AF2 PL30C/A0/PPC_A14 (io), AG1 PL30D/A1/PPC_A15 (io), AG2 PL31B (io), AH1 PL31A (io), H1 PL13D/VREF_7_01 (io), J1 PL13C/D4 (io), K1 PL14B (io), K2 PL12A (io), L1 PL14A (io), L2 PL14C/VREF_7_02 (io), L3 PL12B (io), M1 PL15A (io), M2 PL15B (io), M3 PL14D/RDY/~{BUSY}/RCLK (io), M4 PL12C/A14/PPC_A28 (io), N1 PL16C (io), N2 PL16D (io), N3 VDDIO7 (power), N4 PL13B (io), N5 PL12D/A15/PPC_A29 (io), P1 PL18D (io), P2 PL17D/A11/PPC_A25 (io), P3 PL15C/A12/PPC_A26 (io), P4 PL15D/A13/PPC_A27 (io), P5 PL13A (io), R1 PL18C (io), R2 VDDIO7 (power), R3 PL17C/VREF_7_03 (io), R4 PL16B (io), R5 PL17B (io), T1 PL19A (io), T2 PL19C/VREF_7_04 (io), T3 PL19D/~{RD/MPI_STRB} (io), T4 PL18A (io), T5 PL18B (io), U1 PL19B (io), U2 PL20B (io), U3 VDDIO7 (power), U4 PL20D/PLCK0C (io), U5 PL20C/PLCK0T (io), V1 PL20A (io), V2 PL21D/A10/PPC_A24 (io), V3 PL21C/A9/PPC_A23 (io), V4 PL21B (io), V5 PL21A (io), W1 PL22B (io), W2 VDDIO7 (power), W3 PL22C/VREF_7_05 (io), W4 PL22D/A8/PPC_A22 (io), W5 PL24C/PLCK1T (io), Y1 PL22A (io), Y2 PL23D (io), Y3 PL23A (io), Y4 PL23B (io), Y5 PL24D/PLCK1C (io)
part F pins: A32 PASB_TESTCLK (in), A33 PASB_TRISTN (in), AA33 HDOUTN_BC (out), AA34 HDOUTP_BC (out), AB33 HDINN_BC (in), AB34 HDINP_BC (in), AC33 HDOUTN_BB (out), AC34 HDOUTP_BB (out), AD33 HDINN_BB (in), AD34 HDINP_BB (in), AE30 REFCLKN_B (in), AE31 REFCLKP_B (in), AE33 HDOUTN_BA (out), AE34 HDOUTP_BA (out), AF30 REXT_B (out), AF31 REXTN_B (out), AF33 HDINN_BA (in), AF34 HDINP_BA (in), AH30 PSCHAR_CV (io), AH31 PSCHAR_BYTSYNC (io), AH32 ATMOUT_B (NC) (out), AJ5 LVDS_R, AJ30 PSCHAR_LDIO1 (io), AJ31 PSCHAR_CKIO0 (io), AJ33 PSCHAR_XCK (io), AJ34 PSCHAR_WDSYNC (io), AK30 PSCHAR_LDIO3 (io), AK33 PSCHAR_LDIO0 (io), AK34 PSCHAR_CKIO1 (io), AL31 PSCHAR_LDIO5 (io), AL32 PSCHAR_LDIO2 (io), AM3 PTEMP (in), AM31 PSCHAR_LDIO6 (io), AM33 PSCHAR_LDIO4 (io), AN32 PSCHAR_LDIO7 (io), AP32 PSCHAR_LDIO9 (io), AP33 PSCHAR_LDIO8 (io), B31 PMP_TESTCLK_ENN (in), B32 PASB_RESETN (in), C32 PMP_TESTCLK (in), D3 ~{PRGRM} (in), D4 DONE (io), D5 ~{CFG_IRQ}/~{MPI_IRQ} (out), D31 PASB_PDN (in), D32 PBIST_TEST_ENN (in), E4 RD_DATA/TDO (out), E6 CCLK (io), E30 PLOOP_TEST_ENN (in), F5 ~{RESET} (in), F30 PSYS_DOBISTN (in), F31 PSYS_RSSIG_ALL (out), F33 PRESERVE02 (in), G5 ~{RD_CFG} (in), G30 PRESERVE03 (in), G31 PRESERVE01 (in), G32 ATMOUT_A (NC) (out), J30 REXT_A (out), J31 REXTN_A (out), J33 HDINN_AA (in), J34 HDINP_AA (in), K30 REFCLKN_A (in), K31 REFCLKP_A (in), K33 HDOUTN_AA (out), K34 HDOUTP_AA (out), L33 HDINN_AB (in), L34 HDINP_AB (in), M33 HDOUTN_AB (out), M34 HDOUTP_AB (out), N33 HDINN_AC (in), N34 HDINP_AC (in), P33 HDOUTN_AC (out), P34 HDOUTP_AC (out), R33 HDINN_AD (in), R34 HDINP_AD (in), T32 NC, T33 HDOUTN_AD (out), T34 HDOUTP_AD (out), W32 NC, W33 HDOUTN_BD (out), W34 HDOUTP_BD (out), Y33 HDINN_BD (in), Y34 HDINP_BD (in)
part G pins: A31 VDD33 (power), AA16 VDD15 (power), AA17 VDD15 (power), AA18 VDD15 (power), AA19 VDD15 (power), AA30 VDDIB_BC (power), AA32 VDD_ANA (power), AB16 VDD15 (power), AB17 VDD15 (power), AB18 VDD15 (power), AB19 VDD15 (power), AB30 VDDIB_BB (power), AB31 VDDOB_BB (power), AC30 VDDOB_BA (power), AD30 VDDIB_BA (power), AD32 VDD_ANA (power), AE32 VDD_ANA (power), AH34 VDDGB_B (power), AJ32 VDD15 (power), AK5 VDD33 (power), AK28 VDD33 (power), AK31 VDD33 (power), AK32 VDD15 (power), AL4 VDD33 (power), AL33 VDD15 (power), AL34 VDD15 (power), AM32 VDD33 (power), AM34 VDD15 (power), AN34 VDD15 (power), B34 VDD15 (power), C3 VDD33 (power), C31 VDD33 (power), C33 VDD15 (power), C34 VDD15 (power), D33 VDD15 (power), D34 VDD15 (power), E5 VDD33 (power), E31 VDD33 (power), E32 VDD15 (power), E33 VDD15 (power), F32 VDD15 (power), F34 VDD15 (power), G34 VDDGB_A (power), K32 VDD_ANA (power), L30 VDDIB_AA (power), L32 VDD_ANA (power), M30 VDDOB_AA (power), N16 VDD15 (power), N17 VDD15 (power), N18 VDD15 (power), N19 VDD15 (power), N30 VDDIB_AB (power), N31 VDDOB_AB (power), P16 VDD15 (power), P17 VDD15 (power), P18 VDD15 (power), P19 VDD15 (power), P30 VDDIB_AC (power), P32 VDD_ANA (power), R16 VDD15 (power), R17 VDD15 (power), R18 VDD15 (power), R19 VDD15 (power), R30 VDDOB_AC (power), R31 VDDOB_AC (power), R32 VDD_ANA (power), T13 VDD15 (power), T14 VDD15 (power), T15 VDD15 (power), T20 VDD15 (power), T21 VDD15 (power), T22 VDD15 (power), T30 VDDIB_AD (power), U13 VDD15 (power), U14 VDD15 (power), U15 VDD15 (power), U20 VDD15 (power), U21 VDD15 (power), U22 VDD15 (power), U30 VDDOB_AD (power), U31 VDDOB_AD (power), V13 VDD15 (power), V14 VDD15 (power), V15 VDD15 (power), V20 VDD15 (power), V21 VDD15 (power), V22 VDD15 (power), V30 VDDOB_BD (power), V31 VDDOB_BD (power), W13 VDD15 (power), W14 VDD15 (power), W15 VDD15 (power), W20 VDD15 (power), W21 VDD15 (power), W22 VDD15 (power), W30 VDDIB_BD (power), Y16 VDD15 (power), Y17 VDD15 (power), Y18 VDD15 (power), Y19 VDD15 (power), Y30 VDDOB_BC (power), Y31 VDDOB_BC (power), Y32 VDD_ANA (power)
part H pins: A1 VSS (power), A34 VSS (power), AA13 VSS (power), AA14 VSS (power), AA15 VSS (power), AA20 VSS (power), AA21 VSS (power), AA22 VSS (power), AA31 VSS (power), AB13 VSS (power), AB14 VSS (power), AB15 VSS (power), AB20 VSS (power), AB21 VSS (power), AB22 VSS (power), AB32 VSS (power), AC31 VSS (power), AC32 VSS (power), AD31 VSS (power), AF32 VSS (power), AG30 VSS (power), AG31 VSS (power), AG32 VSS (power), AG33 VSS (power), AG34 VSS (power), AH33 VSS (power), AN33 VSS (power), AP34 VSS (power), B2 VSS (power), B33 VSS (power), E34 VSS (power), G33 VSS (power), H30 VSS (power), H31 VSS (power), H32 VSS (power), H33 VSS (power), H34 VSS (power), J32 VSS (power), L31 VSS (power), M31 VSS (power), M32 VSS (power), N13 VSS (power), N14 VSS (power), N15 VSS (power), N20 VSS (power), N21 VSS (power), N22 VSS (power), N32 VSS (power), P13 VSS (power), P14 VSS (power), P15 VSS (power), P20 VSS (power), P21 VSS (power), P22 VSS (power), P31 VSS (power), R13 VSS (power), R14 VSS (power), R15 VSS (power), R20 VSS (power), R21 VSS (power), R22 VSS (power), T16 VSS (power), T17 VSS (power), T18 VSS (power), T19 VSS (power), T31 VSS (power), U16 VSS (power), U17 VSS (power), U18 VSS (power), U19 VSS (power), U32 VSS (power), U33 VSS (power), U34 VSS (power), V16 VSS (power), V17 VSS (power), V18 VSS (power), V19 VSS (power), V32 VSS (power), V33 VSS (power), V34 VSS (power), W16 VSS (power), W17 VSS (power), W18 VSS (power), W19 VSS (power), W31 VSS (power), Y13 VSS (power), Y14 VSS (power), Y15 VSS (power), Y20 VSS (power), Y21 VSS (power), Y22 VSS (power)
part A text: Bank 0
part B text: Bank 1
part C text: Bank 5
part D text: Bank 6
part E text: Bank 7

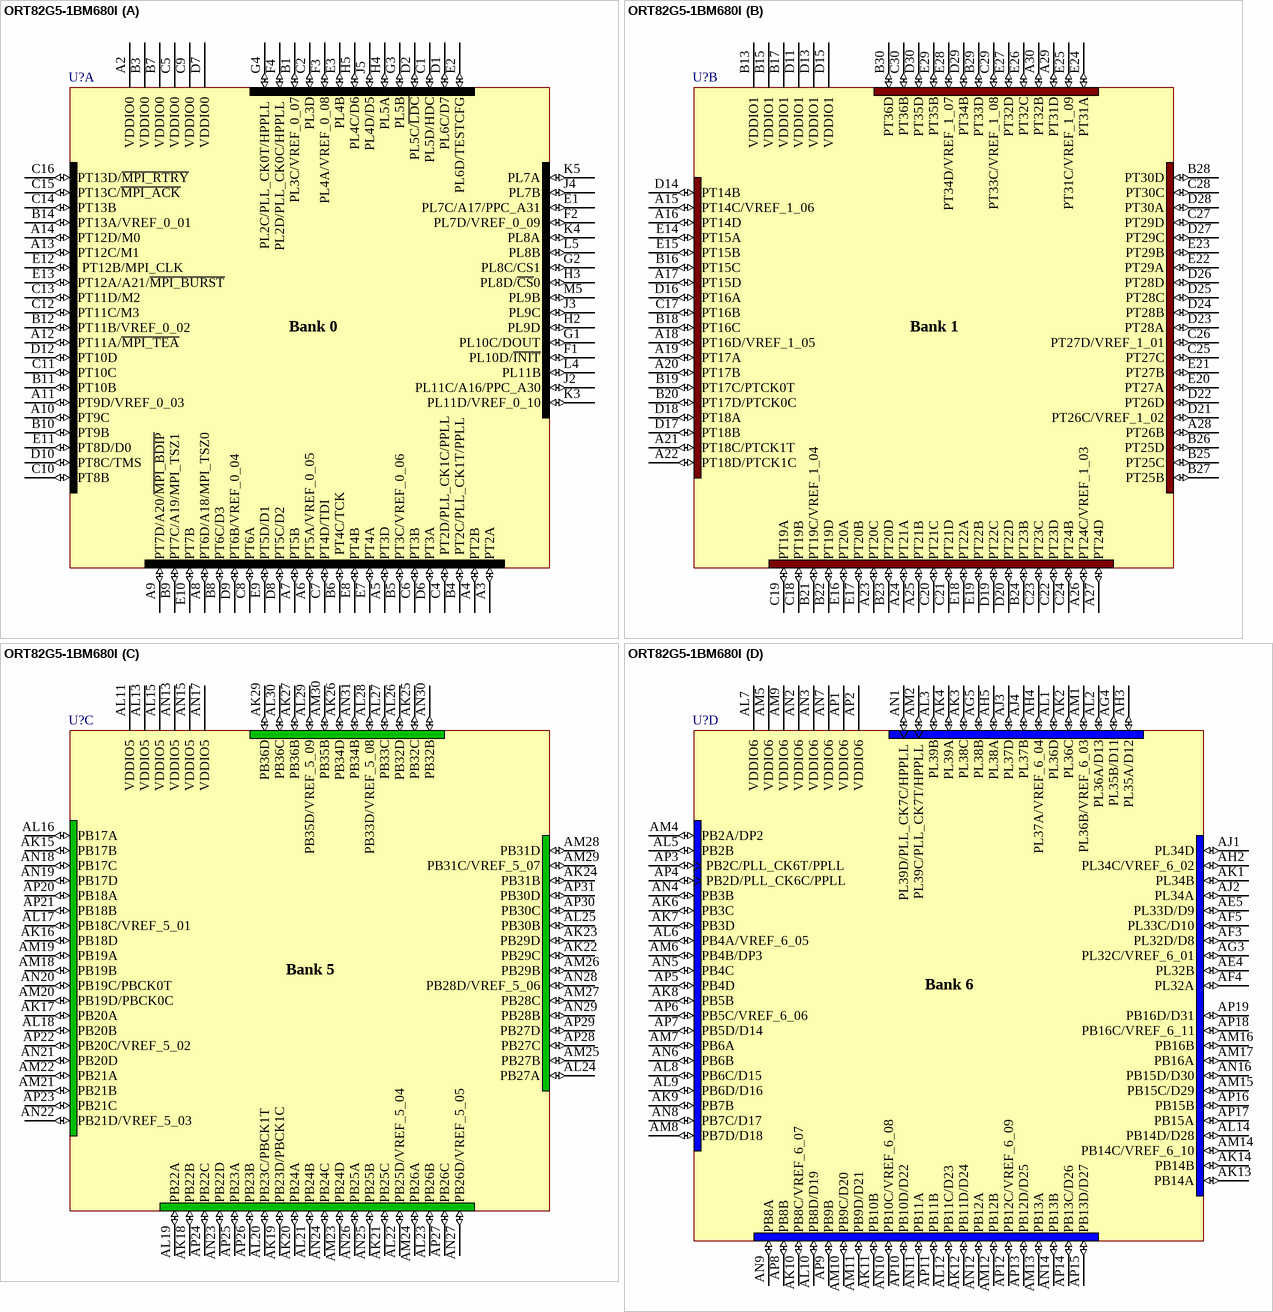
[diagram p29: symbol ORT82G5-1BM680I]

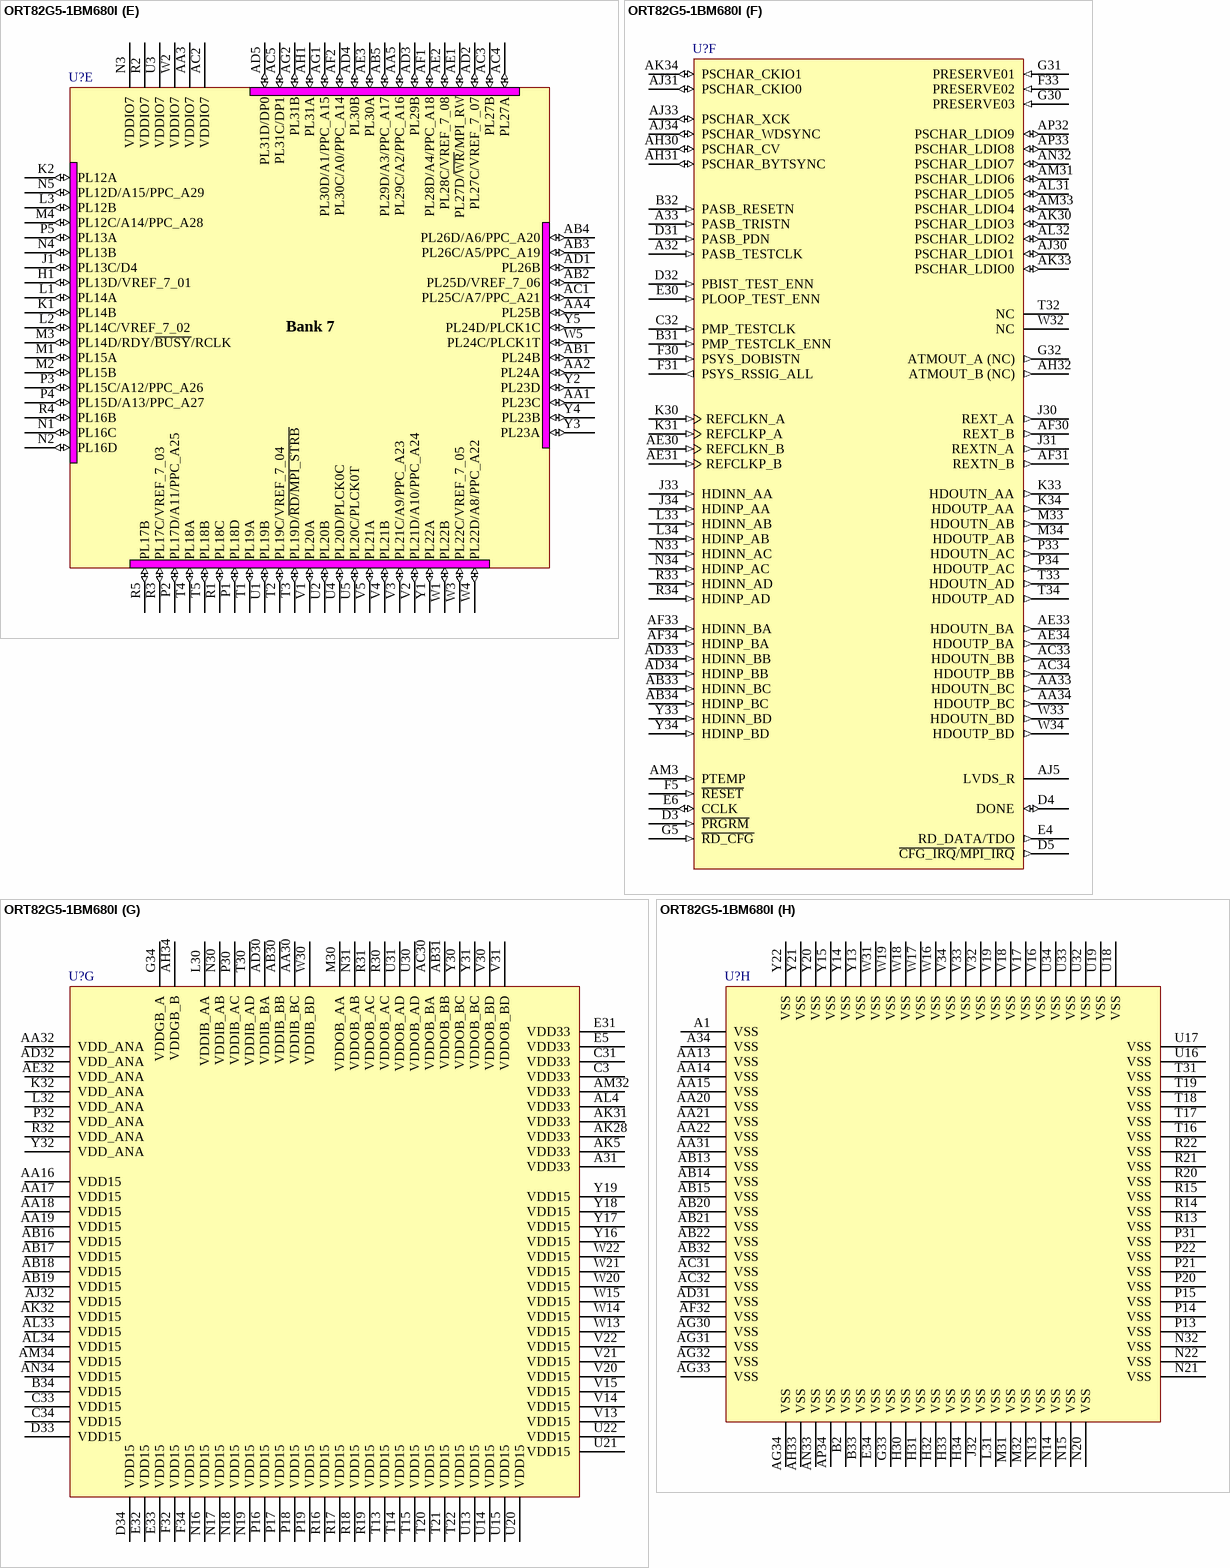
[diagram p30: symbol ORT82G5-1BM680I]

## ORT82G5-1BM680I
designator U?
ORCA ORT82G5 0.6 - 3.7 Gbps XAUI and FC FPSC: 372 User I/Os, 680-Ball fpBGA, Speed Grade 1, Industrial Grade; Published: 17-Dec-2003; LatestRevisionDate: 13-Apr-2006; LatestRevisionNote: IPC-7351 Footprint Added.; DatasheetVersion: 42g582g5_01 (Mar-2003); PackageVersion: pkg_32, Aug-2005; PackageReference: fpBGA680; Publisher: Altium Limited; PackageDescription: 680-Ball Fine Pitch Ball Grid Array (fpBGA680); ComponentLink1Description: Manufacturer Link; ComponentLink1URL: http://www.latticesemi.com/products/fpsc/ort82g5/index.cfm; ComponentLink2Description: Datasheet; ComponentLink2URL: http://www.latticesemi.com/account/_download.cfm?AMID=3972; ComponentLink3Description: Lattice Login; ComponentLink3URL: http://www.latticesemi.com/account/login.cfm
footprint fpBGA680 (BGA, 680-Leads, Body 35x35mm, Pitch 1mm)
3D model ORT82G5-fpBGA680 (680-Ball Fine Pitch Ball Grid Array (fpBGA680))
part A pins: A2 VDDIO0 (power), A3 PT2A (io), A4 PT2B (io), A5 PT3D (io), A6 PT5A/VREF_0_05 (io), A7 PT5B (io), A8 PT6D/A18/MPI_TSZ0 (io), A9 PT7D/A20/~{MPI_BDIP} (io), A10 PT9C (io), A11 PT9D/VREF_0_03 (io), A12 PT11A/~{MPI_TEA} (io), A13 PT12C/M1 (io), A14 PT12D/M0 (io), B1 PL3C/VREF_0_07 (io), B3 VDDIO0 (power), B4 PT2C/PLL_CK1T/PPLL (io), B5 PT3C/VREF_0_06 (io), B6 PT4C/TCK (io), B7 VDDIO0 (power), B8 PT6C/D3 (io), B9 PT7C/A19/MPI_TSZ1 (io), B10 PT9B (io), B11 PT10B (io), B12 PT11B/VREF_0_02 (io), B14 PT13A/VREF_0_01 (io), C1 PL5D/HDC (io), C2 PL3D (io), C4 PT2D/PLL_CK1C/PPLL (io), C5 VDDIO0 (power), C6 PT3B (io), C7 PT4D/TDI (io), C8 PT6A (io), C9 VDDIO0 (power), C10 PT8B (io), C11 PT10C (io), C12 PT11C/M3 (io), C13 PT11D/M2 (io), C14 PT13B (io), C15 PT13C/~{MPI_ACK} (io), C16 PT13D/~{MPI_RTRY} (io), D1 PL6C/D7 (io), D2 PL5C/~{LDC} (io), D6 PT3A (io), D7 VDDIO0 (power), D8 PT5C/D2 (io), D9 PT6B/VREF_0_04 (io), D10 PT8C/TMS (io), D12 PT10D (io), E1 PL7C/A17/PPC_A31 (io), E2 PL6D/TESTCFG (io), E3 PL4B (io), E7 PT4A (io), E8 PT4B (io), E9 PT5D/D1 (io), E10 PT7B (io), E11 PT8D/D0 (io), E12 PT12B/MPI_CLK (io), E13 PT12A/A21/~{MPI_BURST} (io), F1 PL10D/~{INIT} (io), F2 PL7D/VREF_0_09 (io), F3 PL4A/VREF_0_08 (io), F4 PL2D/PLL_CK0C/HPPLL (io), G1 PL10C/DOUT (io), G2 PL8C/CS1 (io), G3 PL5B (io), G4 PL2C/PLL_CK0T/HPPLL (io), H2 PL9D (io), H3 PL8D/~{CS}0 (io), H4 PL5A (io), H5 PL4C/D6 (io), J2 PL11C/A16/PPC_A30 (io), J3 PL9C (io), J4 PL7B (io), J5 PL4D/D5 (io), K3 PL11D/VREF_0_10 (io), K4 PL8A (io), K5 PL7A (io), L4 PL11B (io), L5 PL8B (io), M5 PL9B (io)
part B pins: A15 PT14C/VREF_1_06 (io), A16 PT14D (io), A17 PT15D (io), A18 PT16D/VREF_1_05 (io), A19 PT17A (io), A20 PT17B (io), A21 PT18C/PTCK1T (io), A22 PT18D/PTCK1C (io), A23 PT20C (io), A24 PT21A (io), A25 PT21B (io), A26 PT24C/VREF_1_03 (io), A27 PT24D (io), A28 PT26B (io), A29 PT31D (io), A30 PT32B (io), B13 VDDIO1 (power), B15 VDDIO1 (power), B16 PT15C (io), B17 VDDIO1 (power), B18 PT16C (io), B19 PT17C/PTCK0T (io), B20 PT17D/PTCK0C (io), B21 PT19C/VREF_1_04 (io), B22 PT19D (io), B23 PT20D (io), B24 PT23B (io), B25 PT25C (io), B26 PT25D (io), B27 PT25B (io), B28 PT30D (io), B29 PT33D (io), B30 PT36D (io), C17 PT16B (io), C18 PT19B (io), C19 PT19A (io), C20 PT21C (io), C21 PT21D (io), C22 PT23D (io), C23 PT23C (io), C24 PT24B (io), C25 PT27C (io), C26 PT27D/VREF_1_01 (io), C27 PT29D (io), C28 PT30C (io), C29 PT33C/VREF_1_08 (io), C30 PT36B (io), D11 VDDIO1 (power), D13 VDDIO1 (power), D14 PT14B (io), D15 VDDIO1 (power), D16 PT16A (io), D17 PT18B (io), D18 PT18A (io), D19 PT22C (io), D20 PT22D (io), D21 PT26C/VREF_1_02 (io), D22 PT26D (io), D23 PT28A (io), D24 PT28B (io), D25 PT28C (io), D26 PT28D (io), D27 PT29C (io), D28 PT30A (io), D29 PT34B (io), D30 PT35D (io), E14 PT15A (io), E15 PT15B (io), E16 PT20A (io), E17 PT20B (io), E18 PT22A (io), E19 PT22B (io), E20 PT27A (io), E21 PT27B (io), E22 PT29A (io), E23 PT29B (io), E24 PT31A (io), E25 PT31C/VREF_1_09 (io), E26 PT32C (io), E27 PT32D (io), E28 PT34D/VREF_1_07 (io), E29 PT35B (io)
part C pins: AK15 PB17B (io), AK16 PB18D (io), AK17 PB20A (io), AK18 PB22B (io), AK19 PB23D/PBCK1C (io), AK20 PB24A (io), AK21 PB25C (io), AK22 PB29C (io), AK23 PB29D (io), AK24 PB31B (io), AK25 PB32C (io), AK26 PB34D (io), AK27 PB36B (io), AK29 PB36D (io), AL11 VDDIO5 (power), AL13 VDDIO5 (power), AL15 VDDIO5 (power), AL16 PB17A (io), AL17 PB18C/VREF_5_01 (io), AL18 PB20B (io), AL19 PB22A (io), AL20 PB23C/PBCK1T (io), AL21 PB24B (io), AL22 PB25D/VREF_5_04 (io), AL23 PB26B (io), AL24 PB27A (io), AL25 PB30B (io), AL26 PB32D (io), AL27 PB33C (io), AL28 PB33D/VREF_5_08 (io), AL29 PB35D/VREF_5_09 (io), AL30 PB36C (io), AM18 PB19B (io), AM19 PB19A (io), AM20 PB19D/PBCK0C (io), AM21 PB21B (io), AM22 PB21A (io), AM23 PB24D (io), AM24 PB26A (io), AM25 PB27B (io), AM26 PB29B (io), AM27 PB28C (io), AM28 PB31D (io), AM29 PB31C/VREF_5_07 (io), AM30 PB35B (io), AN13 VDDIO5 (power), AN15 VDDIO5 (power), AN17 VDDIO5 (power), AN18 PB17C (io), AN19 PB17D (io), AN20 PB19C/PBCK0T (io), AN21 PB20D (io), AN22 PB21D/VREF_5_03 (io), AN23 PB22D (io), AN24 PB24C (io), AN25 PB25B (io), AN26 PB25A (io), AN27 PB26D/VREF_5_05 (io), AN28 PB28D/VREF_5_06 (io), AN29 PB28B (io), AN30 PB32B (io), AN31 PB34B (io), AP20 PB18A (io), AP21 PB18B (io), AP22 PB20C/VREF_5_02 (io), AP23 PB21C (io), AP24 PB22C (io), AP25 PB23A (io), AP26 PB23B (io), AP27 PB26C (io), AP28 PB27C (io), AP29 PB27D (io), AP30 PB30C (io), AP31 PB30D (io)
part D pins: AE4 PL32B (io), AE5 PL33D/D9 (io), AF3 PL32D/D8 (io), AF4 PL32A (io), AF5 PL33C/D10 (io), AG3 PL32C/VREF_6_01 (io), AG4 PL35B/D11 (io), AG5 PL38B (io), AH2 PL34C/VREF_6_02 (io), AH3 PL35A/D12 (io), AH4 PL37A/VREF_6_04 (io), AH5 PL38A (io), AJ1 PL34D (io), AJ2 PL34A (io), AJ3 PL37D (io), AJ4 PL37B (io), AK1 PL34B (io), AK2 PL36C (io), AK3 PL38C (io), AK4 PL39A (io), AK6 PB3C (io), AK7 PB3D (io), AK8 PB5B (io), AK9 PB7B (io), AK10 PB8C/VREF_6_07 (io), AK11 PB10B (io), AK12 PB11D/D24 (io), AK13 PB14A (io), AK14 PB14B (io), AL1 PL36D (io), AL2 PL36A/D13 (io), AL3 PL39B (io), AL5 PB2B (io), AL6 PB4A/VREF_6_05 (io), AL7 VDDIO6 (power), AL8 PB6C/D15 (io), AL9 PB6D/D16 (io), AL10 PB8D/D19 (io), AL12 PB11C/D23 (io), AL14 PB14D/D28 (io), AM1 PL36B/VREF_6_03 (io), AM2 PL39C/PLL_CK7T/HPPLL (io), AM4 PB2A/DP2 (io), AM5 VDDIO6 (power), AM6 PB4B/DP3 (io), AM7 PB6A (io), AM8 PB7D/D18 (io), AM9 VDDIO6 (power), AM10 PB9C/D20 (io), AM11 PB9D/D21 (io), AM12 PB12B (io), AM13 PB13A (io), AM14 PB14C/VREF_6_10 (io), AM15 PB15C/D29 (io), AM16 PB16B (io), AM17 PB16A (io), AN1 PL39D/PLL_CK7C/HPPLL (io), AN2 VDDIO6 (power), AN3 VDDIO6 (power), AN4 PB3B (io), AN5 PB4C (io), AN6 PB6B (io), AN7 VDDIO6 (power), AN8 PB7C/D17 (io), AN9 PB8A (io), AN10 PB10C/VREF_6_08 (io), AN11 PB11A (io), AN12 PB12A (io), AN14 PB13B (io), AN16 PB15D/D30 (io), AP1 VDDIO6 (power), AP2 VDDIO6 (power), AP3 PB2C/PLL_CK6T/PPLL (io), AP4 PB2D/PLL_CK6C/PPLL (io), AP5 PB4D (io), AP6 PB5C/VREF_6_06 (io), AP7 PB5D/D14 (io), AP8 PB8B (io), AP9 PB9B (io), AP10 PB10D/D22 (io), AP11 PB11B (io), AP12 PB12C/VREF_6_09 (io), AP13 PB12D/D25 (io), AP14 PB13C/D26 (io), AP15 PB13D/D27 (io), AP16 PB15B (io), AP17 PB15A (io), AP18 PB16C/VREF_6_11 (io), AP19 PB16D/D31 (io)
part E pins: AA1 PL23C (io), AA2 PL24A (io), AA3 VDDIO7 (power), AA4 PL25B (io), AA5 PL29C/A2/PPC_A16 (io), AB1 PL24B (io), AB2 PL25D/VREF_7_06 (io), AB3 PL26C/A5/PPC_A19 (io), AB4 PL26D/A6/PPC_A20 (io), AB5 PL29D/A3/PPC_A17 (io), AC1 PL25C/A7/PPC_A21 (io), AC2 VDDIO7 (power), AC3 PL27B (io), AC4 PL27A (io), AC5 PL31C/DP1 (io), AD1 PL26B (io), AD2 PL27C/VREF_7_07 (io), AD3 PL29B (io), AD4 PL30B (io), AD5 PL31D/DP0 (io), AE1 PL27D/~{WR}/MPI_RW (io), AE2 PL28C/VREF_7_08 (io), AE3 PL30A (io), AF1 PL28D/A4/PPC_A18 (io), AF2 PL30C/A0/PPC_A14 (io), AG1 PL30D/A1/PPC_A15 (io), AG2 PL31B (io), AH1 PL31A (io), H1 PL13D/VREF_7_01 (io), J1 PL13C/D4 (io), K1 PL14B (io), K2 PL12A (io), L1 PL14A (io), L2 PL14C/VREF_7_02 (io), L3 PL12B (io), M1 PL15A (io), M2 PL15B (io), M3 PL14D/RDY/~{BUSY}/RCLK (io), M4 PL12C/A14/PPC_A28 (io), N1 PL16C (io), N2 PL16D (io), N3 VDDIO7 (power), N4 PL13B (io), N5 PL12D/A15/PPC_A29 (io), P1 PL18D (io), P2 PL17D/A11/PPC_A25 (io), P3 PL15C/A12/PPC_A26 (io), P4 PL15D/A13/PPC_A27 (io), P5 PL13A (io), R1 PL18C (io), R2 VDDIO7 (power), R3 PL17C/VREF_7_03 (io), R4 PL16B (io), R5 PL17B (io), T1 PL19A (io), T2 PL19C/VREF_7_04 (io), T3 PL19D/~{RD/MPI_STRB} (io), T4 PL18A (io), T5 PL18B (io), U1 PL19B (io), U2 PL20B (io), U3 VDDIO7 (power), U4 PL20D/PLCK0C (io), U5 PL20C/PLCK0T (io), V1 PL20A (io), V2 PL21D/A10/PPC_A24 (io), V3 PL21C/A9/PPC_A23 (io), V4 PL21B (io), V5 PL21A (io), W1 PL22B (io), W2 VDDIO7 (power), W3 PL22C/VREF_7_05 (io), W4 PL22D/A8/PPC_A22 (io), W5 PL24C/PLCK1T (io), Y1 PL22A (io), Y2 PL23D (io), Y3 PL23A (io), Y4 PL23B (io), Y5 PL24D/PLCK1C (io)
part F pins: A32 PASB_TESTCLK (in), A33 PASB_TRISTN (in), AA33 HDOUTN_BC (out), AA34 HDOUTP_BC (out), AB33 HDINN_BC (in), AB34 HDINP_BC (in), AC33 HDOUTN_BB (out), AC34 HDOUTP_BB (out), AD33 HDINN_BB (in), AD34 HDINP_BB (in), AE30 REFCLKN_B (in), AE31 REFCLKP_B (in), AE33 HDOUTN_BA (out), AE34 HDOUTP_BA (out), AF30 REXT_B (out), AF31 REXTN_B (out), AF33 HDINN_BA (in), AF34 HDINP_BA (in), AH30 PSCHAR_CV (io), AH31 PSCHAR_BYTSYNC (io), AH32 ATMOUT_B (NC) (out), AJ5 LVDS_R, AJ30 PSCHAR_LDIO1 (io), AJ31 PSCHAR_CKIO0 (io), AJ33 PSCHAR_XCK (io), AJ34 PSCHAR_WDSYNC (io), AK30 PSCHAR_LDIO3 (io), AK33 PSCHAR_LDIO0 (io), AK34 PSCHAR_CKIO1 (io), AL31 PSCHAR_LDIO5 (io), AL32 PSCHAR_LDIO2 (io), AM3 PTEMP (in), AM31 PSCHAR_LDIO6 (io), AM33 PSCHAR_LDIO4 (io), AN32 PSCHAR_LDIO7 (io), AP32 PSCHAR_LDIO9 (io), AP33 PSCHAR_LDIO8 (io), B31 PMP_TESTCLK_ENN (in), B32 PASB_RESETN (in), C32 PMP_TESTCLK (in), D3 ~{PRGRM} (in), D4 DONE (io), D5 ~{CFG_IRQ}/~{MPI_IRQ} (out), D31 PASB_PDN (in), D32 PBIST_TEST_ENN (in), E4 RD_DATA/TDO (out), E6 CCLK (io), E30 PLOOP_TEST_ENN (in), F5 ~{RESET} (in), F30 PSYS_DOBISTN (in), F31 PSYS_RSSIG_ALL (out), F33 PRESERVE02 (in), G5 ~{RD_CFG} (in), G30 PRESERVE03 (in), G31 PRESERVE01 (in), G32 ATMOUT_A (NC) (out), J30 REXT_A (out), J31 REXTN_A (out), J33 HDINN_AA (in), J34 HDINP_AA (in), K30 REFCLKN_A (in), K31 REFCLKP_A (in), K33 HDOUTN_AA (out), K34 HDOUTP_AA (out), L33 HDINN_AB (in), L34 HDINP_AB (in), M33 HDOUTN_AB (out), M34 HDOUTP_AB (out), N33 HDINN_AC (in), N34 HDINP_AC (in), P33 HDOUTN_AC (out), P34 HDOUTP_AC (out), R33 HDINN_AD (in), R34 HDINP_AD (in), T32 NC, T33 HDOUTN_AD (out), T34 HDOUTP_AD (out), W32 NC, W33 HDOUTN_BD (out), W34 HDOUTP_BD (out), Y33 HDINN_BD (in), Y34 HDINP_BD (in)
part G pins: A31 VDD33 (power), AA16 VDD15 (power), AA17 VDD15 (power), AA18 VDD15 (power), AA19 VDD15 (power), AA30 VDDIB_BC (power), AA32 VDD_ANA (power), AB16 VDD15 (power), AB17 VDD15 (power), AB18 VDD15 (power), AB19 VDD15 (power), AB30 VDDIB_BB (power), AB31 VDDOB_BB (power), AC30 VDDOB_BA (power), AD30 VDDIB_BA (power), AD32 VDD_ANA (power), AE32 VDD_ANA (power), AH34 VDDGB_B (power), AJ32 VDD15 (power), AK5 VDD33 (power), AK28 VDD33 (power), AK31 VDD33 (power), AK32 VDD15 (power), AL4 VDD33 (power), AL33 VDD15 (power), AL34 VDD15 (power), AM32 VDD33 (power), AM34 VDD15 (power), AN34 VDD15 (power), B34 VDD15 (power), C3 VDD33 (power), C31 VDD33 (power), C33 VDD15 (power), C34 VDD15 (power), D33 VDD15 (power), D34 VDD15 (power), E5 VDD33 (power), E31 VDD33 (power), E32 VDD15 (power), E33 VDD15 (power), F32 VDD15 (power), F34 VDD15 (power), G34 VDDGB_A (power), K32 VDD_ANA (power), L30 VDDIB_AA (power), L32 VDD_ANA (power), M30 VDDOB_AA (power), N16 VDD15 (power), N17 VDD15 (power), N18 VDD15 (power), N19 VDD15 (power), N30 VDDIB_AB (power), N31 VDDOB_AB (power), P16 VDD15 (power), P17 VDD15 (power), P18 VDD15 (power), P19 VDD15 (power), P30 VDDIB_AC (power), P32 VDD_ANA (power), R16 VDD15 (power), R17 VDD15 (power), R18 VDD15 (power), R19 VDD15 (power), R30 VDDOB_AC (power), R31 VDDOB_AC (power), R32 VDD_ANA (power), T13 VDD15 (power), T14 VDD15 (power), T15 VDD15 (power), T20 VDD15 (power), T21 VDD15 (power), T22 VDD15 (power), T30 VDDIB_AD (power), U13 VDD15 (power), U14 VDD15 (power), U15 VDD15 (power), U20 VDD15 (power), U21 VDD15 (power), U22 VDD15 (power), U30 VDDOB_AD (power), U31 VDDOB_AD (power), V13 VDD15 (power), V14 VDD15 (power), V15 VDD15 (power), V20 VDD15 (power), V21 VDD15 (power), V22 VDD15 (power), V30 VDDOB_BD (power), V31 VDDOB_BD (power), W13 VDD15 (power), W14 VDD15 (power), W15 VDD15 (power), W20 VDD15 (power), W21 VDD15 (power), W22 VDD15 (power), W30 VDDIB_BD (power), Y16 VDD15 (power), Y17 VDD15 (power), Y18 VDD15 (power), Y19 VDD15 (power), Y30 VDDOB_BC (power), Y31 VDDOB_BC (power), Y32 VDD_ANA (power)
part H pins: A1 VSS (power), A34 VSS (power), AA13 VSS (power), AA14 VSS (power), AA15 VSS (power), AA20 VSS (power), AA21 VSS (power), AA22 VSS (power), AA31 VSS (power), AB13 VSS (power), AB14 VSS (power), AB15 VSS (power), AB20 VSS (power), AB21 VSS (power), AB22 VSS (power), AB32 VSS (power), AC31 VSS (power), AC32 VSS (power), AD31 VSS (power), AF32 VSS (power), AG30 VSS (power), AG31 VSS (power), AG32 VSS (power), AG33 VSS (power), AG34 VSS (power), AH33 VSS (power), AN33 VSS (power), AP34 VSS (power), B2 VSS (power), B33 VSS (power), E34 VSS (power), G33 VSS (power), H30 VSS (power), H31 VSS (power), H32 VSS (power), H33 VSS (power), H34 VSS (power), J32 VSS (power), L31 VSS (power), M31 VSS (power), M32 VSS (power), N13 VSS (power), N14 VSS (power), N15 VSS (power), N20 VSS (power), N21 VSS (power), N22 VSS (power), N32 VSS (power), P13 VSS (power), P14 VSS (power), P15 VSS (power), P20 VSS (power), P21 VSS (power), P22 VSS (power), P31 VSS (power), R13 VSS (power), R14 VSS (power), R15 VSS (power), R20 VSS (power), R21 VSS (power), R22 VSS (power), T16 VSS (power), T17 VSS (power), T18 VSS (power), T19 VSS (power), T31 VSS (power), U16 VSS (power), U17 VSS (power), U18 VSS (power), U19 VSS (power), U32 VSS (power), U33 VSS (power), U34 VSS (power), V16 VSS (power), V17 VSS (power), V18 VSS (power), V19 VSS (power), V32 VSS (power), V33 VSS (power), V34 VSS (power), W16 VSS (power), W17 VSS (power), W18 VSS (power), W19 VSS (power), W31 VSS (power), Y13 VSS (power), Y14 VSS (power), Y15 VSS (power), Y20 VSS (power), Y21 VSS (power), Y22 VSS (power)
part A text: Bank 0
part B text: Bank 1
part C text: Bank 5
part D text: Bank 6
part E text: Bank 7

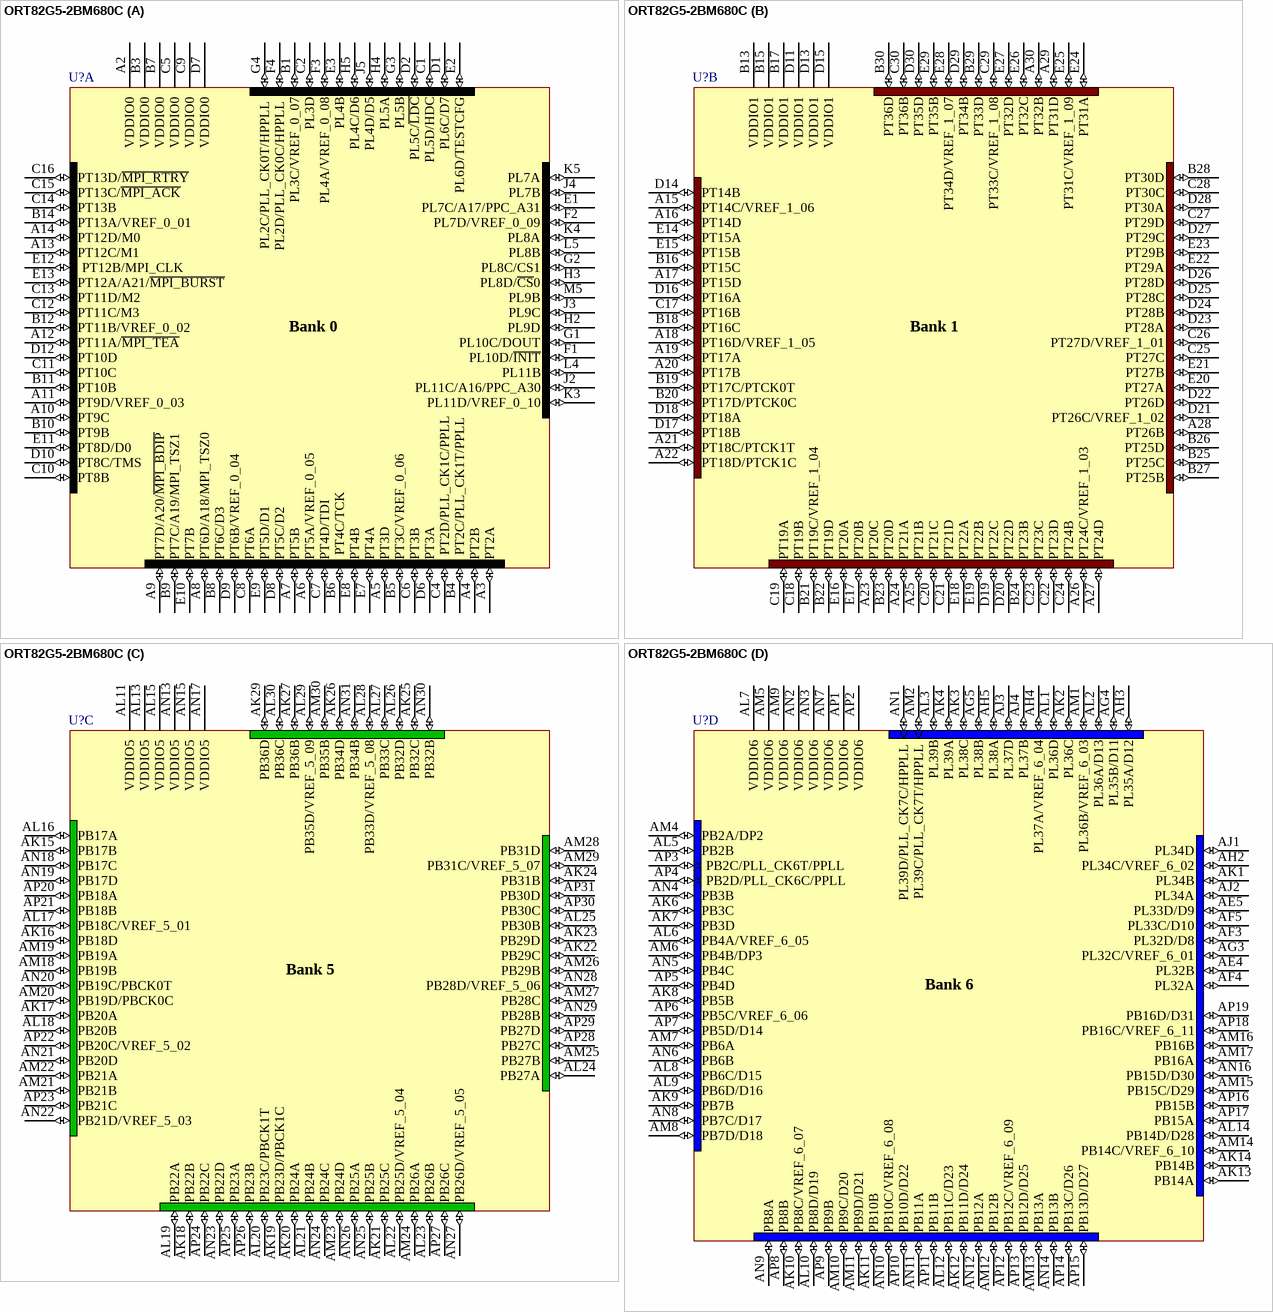
[diagram p31: symbol ORT82G5-2BM680C]

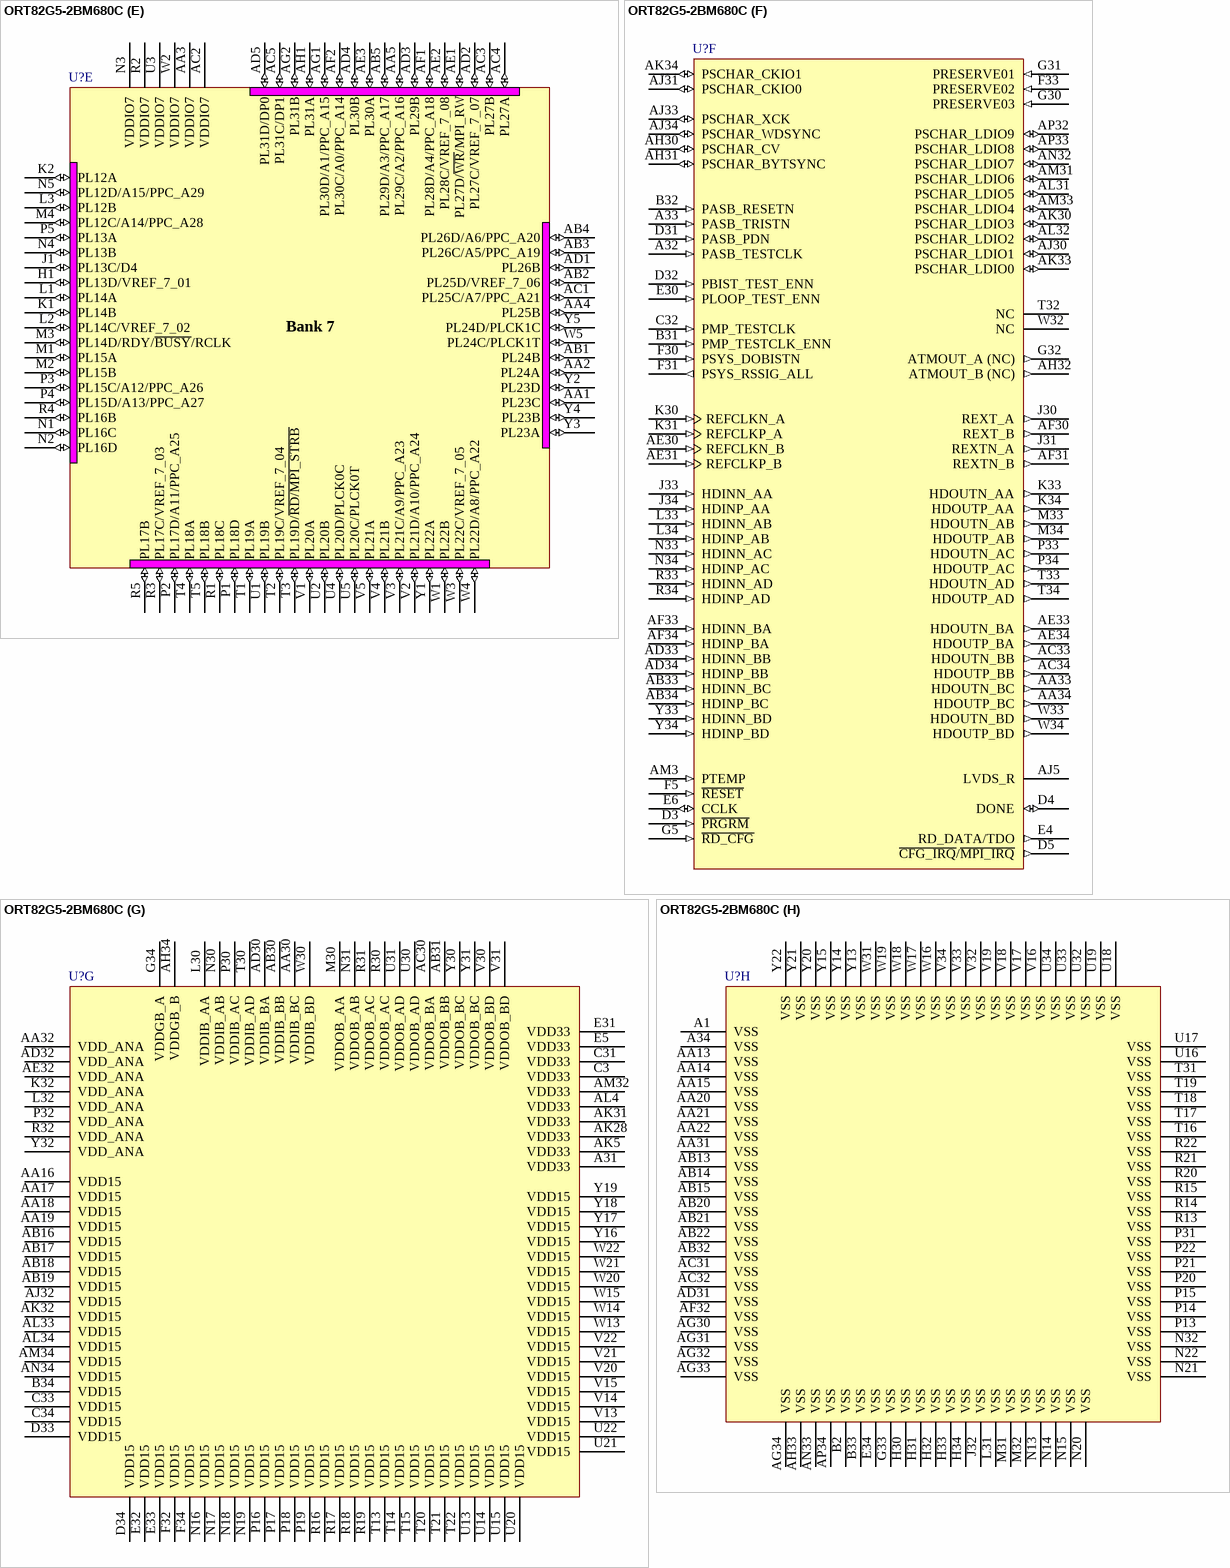
[diagram p32: symbol ORT82G5-2BM680C]